# Altium schematic symbol library AltiumLibraries.SchLib: 486 symbols (part 2 of 3)
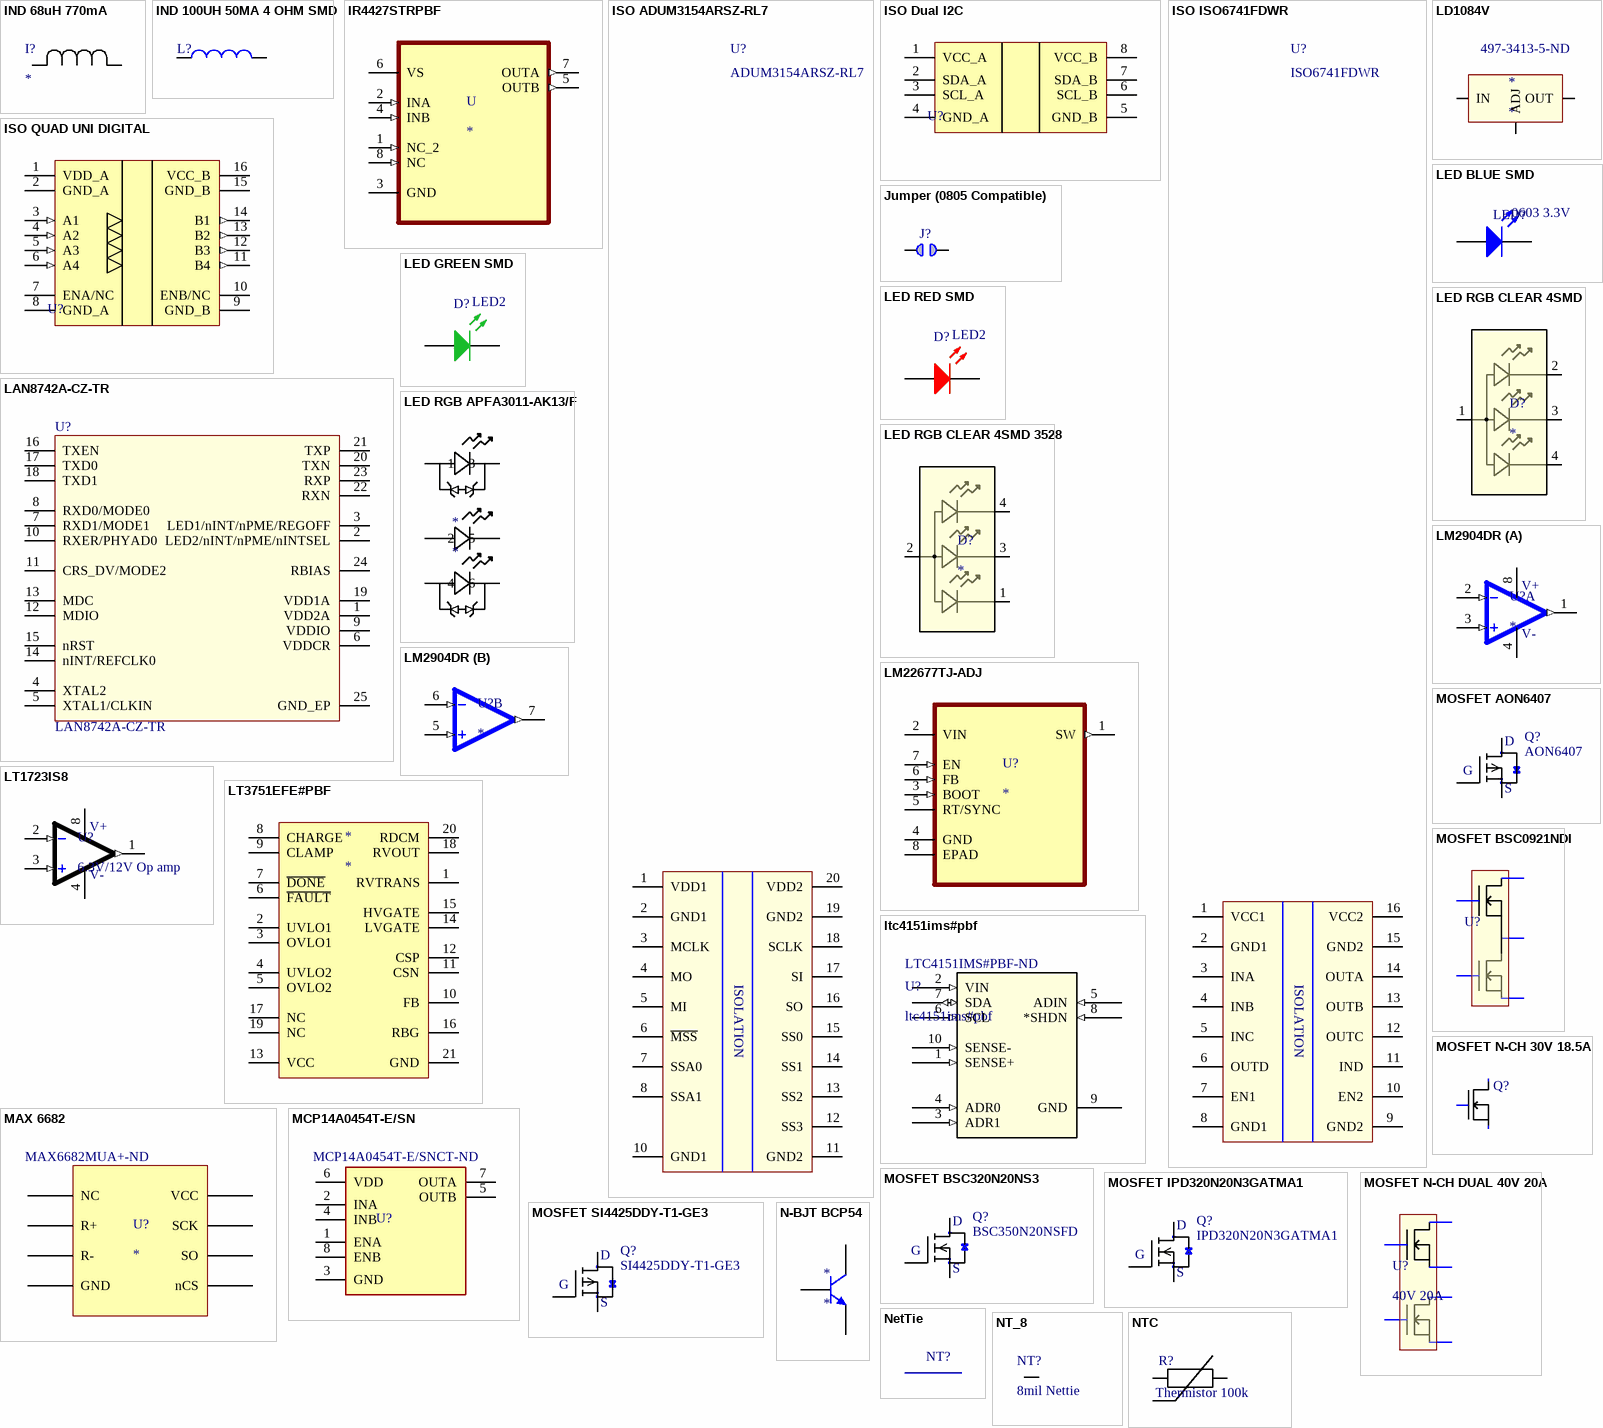
[diagram p13: symbols IND 68uH 770mA to NTC]

## LT3751EFE#PBF
designator *
Controller to 20-Pin TSSOP EP; Manufacturer: Analog Devices / Linear Technology; Manufacturer Part Number: LT3751EFE#PBF; Supplier 1: Digi-Key; Number of Pins: 20
pins: 1 RVTRANS "Transformer Supply Sense Pin. Connect a resistor between the RVTRANS pin and the VTRANS supply. Refer to Table 2 for proper sizing of the RVTRANS resistor. The minimum operation voltage for VTRANS is 4.75V.", 2 UVLO1 "VTRANS Undervoltage Lockout Pin. Senses when VTRANS drops below: VUVLO1 = 1.225+ 50uA •RUVLO1 and trips the F\A\U\L\T\ latch low, disabling switching. After VTRANS rises above VUVLO1, toggling the CHARGE pin reactivate(See Datasheet)", 3 OVLO1 "VTRANS Overvoltage Lockout Pin. Senses when VTRANS rises above: VOVLO1 = 1.225+ 50uA •ROVLO1 and trips the F\A\U\L\T\ latch low, disabling switching. After VTRANS drops below VOVLO1, toggling the CHARGE pin reactivate(See Datasheet)", 4 UVLO2 "VCC Undervoltage Lockout Pin. Senses when VCC drops below: VUVLO2 = 1.225+ 50uA •RUVLO2 and trips the F\A\U\L\T\ latch low, disabling switching. After VCC rises above VUVLO2, toggling the CHARGE pin reactivates switching.", 5 OVLO2 "VCC Overvoltage Lockout Pin. Senses when VCC rises above: VOVLO2 = 1.225+ 50uA •ROVLO2 and trips the F\A\U\L\T\ latch low, disabling switching. After VCC drops below VOVLO2, toggling the CHARGE pin reactivates switching.", 6 ~{FAULT} "Open Collector Indication Pin. When either VTRANS or VCC exceeds the user-selected voltage range, or an internal UVLO condition occurs, a transistor turns on. The part will stop switching. This pin needs a proper pull-up (See Datasheet)", 7 ~{DONE} "Open Collector Indication Pin. When the target output voltage (charge mode) is reached or the F\A\U\L\T\ pin goes low, a transistor turns on. This pin needs a proper pull-up resistor or current source.", 8 CHARGE "Charge Pin. Initiates a new charge cycle (charge mode) or enables the part (regulation mode) when driven higher than 1.5V. Bring this pin below 0.3V to discontinue charging and put the part into shutdown. Turn-on ramp rates (See Datasheet)", 9 CLAMP "Internal Clamp Voltage Selection Pin. Tie this pin to VCC to activate the internal 5.6V gate driver clamp. Tie this pin to ground to activate the internal 10.5V gate driver clamp.", 10 FB "Feedback Regulation Pin. Use this pin to achieve low noise voltage regulation. FB is internally regulated to 1.22V when a resistive divider is tied from this pin to the output. FB pin should not float. Tie FB pin to either a (See Datasheet)", 11 CSN "Negative Current Sense Pin. Senses external NMOS source current. Connect to local RSENSE ground connection for proper Kelvin sensing. The current limit is set by 106mV/RSENSE.", 12 CSP "Positive Current Sense Pin. Senses NMOS source current. Connect the NMOS source terminal and the current sense resistor to this pin. The current limit is fixed at 106mV/RSENSE in charge mode. The current limit can be reduced (See Datasheet)", 13 VCC "Input Supply Pin. Must be locally bypassed with high grade (X5R or better) ceramic capacitor. The minimum operating voltage for VCC is 4.75V.", 14 LVGATE "Low Voltage Gate Pin. Connect the NMOS gate terminal to this pin when operating VCC below 8V. The internal gate driver will drive the voltage to the VCC rail. When operating VCC higher than 8V, tie this pin directly to VCC.", 15 HVGATE "High Voltage Gate Pin. Connect NMOS gate terminal to this pin for all VCC operating voltages. Internal gate driver will drive the voltage to within VCC -2V during each switch cycle.", 16 RBG "Bias Generation Pin. Generates a bias current set by 0.98V/RBG. Select RBG to achieve desired resistance for RDCM, RVOUT, and RVTRANS.", 17 NC "No Connection.", 18 RVOUT "Output Voltage Sense Pin. Develops a current proportional to the output capacitor voltage.", 19 NC "No Connection.", 20 RDCM "Discontinuous Mode Sense Pin. Senses when the external NMOS drain is equal to 20uA ?RDCM + VTRANS and initiates the next switch cycle. Place a resistor equal to 0.45 times the resistor on the RVTRANS pin between this pi(See Datasheet)", 21 GND "Ground. Tie directly to local ground plane."

## ltc4151ims#pbf
designator U?  Supplier Part Number 1: LTC4151IMS#PBF-ND
Power Supply Controller Power Supply Monitor 10-MSOP; Type: DEV; Supplier 1: Digi-Key
pins: 1 SENSE+ (in), 2 VIN (in), 3 ADR1 (in), 4 ADR0 (in), 5 ADIN (in), 6 SCL (in), 7 SDA (io), 8 *SHDN (in), 9 GND (power), 10 SENSE- (in)

## MAX 6682
designator U?  Supplier Part Number 1: MAX6682MUA+-ND
MAX 6685 Thermistor - SPI converter, 8bit; Supplier 1: Digi-Key
pins: 1 NC, 2 R+, 3 R-, 4 GND, 5 nCS, 6 SO, 7 SCK, 8 VCC

## MCP14A0454T-E/SN
designator U?  Supplier Part Number 1: MCP14A0454T-E/SNCT-ND  (hidden comment: *)
Low-Side Gate Driver IC Non-Inverting 8-SOIC; Supplier 1: Digi-Key
pins: 1 ENA, 2 INA, 3 GND, 4 INB, 5 OUTB, 6 VDD, 7 OUTA, 8 ENB

## MOSFET AON6407
designator Q?, comment AON6407
MOSFET P-CH 30V 32A 8DFN; Digikey Link: https://www.digikey.ca/product-detail/en/alpha-omega-semiconductor-inc/AON6407/785-1421-1-ND/3466800; Supplier 1: Digi-Key; Supplier Part Number 1: 785-1421-1-ND
pins: D, G, S

## MOSFET BSC320N20NS3
designator Q?, comment BSC350N20NSFD
MOSFET N-CH 36A 200V; Digikey Link: https://www.digikey.ca/en/products/detail/infineon-technologies/BSC320N20NS3GATMA1/2337851; Supplier 1: Digi-Key; Supplier Part Number 1: BSC320N20NS3GATMA1CT-ND
pins: D, G, S

## MOSFET BSC0921NDI
designator U?
MOSFET N+N 30V 17A; Supplier 1: Digi-Key; Supplier Part Number 1: BSC0921NDIATMA1CT-ND
pins: D1, G1, G2, S1D2, S2

## MOSFET IPD320N20N3GATMA1
designator Q?, comment IPD320N20N3GATMA1
MOSFET N-CH 34A 200V DPAK; Digikey Link: https://www.digikey.ca/en/products/detail/infineon-technologies/IPD320N20N3GATMA1/5823324; Supplier 1: Digi-Key; Supplier Part Number 1: IPD320N20N3GATMA1CT-ND
pins: D, G, S

## MOSFET N-CH 30V 18.5A
designator Q?, comment N-Channel  (value not drawn)
MOSFET N-CH 30V 18.5A 8-SOIC; Rating: 30V; Digikey Link: https://www.digikey.ca/product-detail/en/on-semiconductor/FDS8813NZ/FDS8813NZCT-ND/1626932; Supplier 1: Digi-Key; Supplier Part Number 1: FDS8813NZCT-ND
pins: D, G, S

## MOSFET N-CH DUAL 40V 20A
designator U?, comment 40V 20A
MOSFET N+N 40V 20A; Supplier 1: Digi-Key; Supplier Part Number 1: SI7288DP-T1-GE3CT-ND
pins: 1 S1, 2 G1, 3 S2, 4 G2, 6 D2, 8 D1

## MOSFET SI4425DDY-T1-GE3
designator Q?, comment SI4425DDY-T1-GE3
P-Channel 30V 19.7A (Tc) 2.5W (Ta), 5.7W (Tc) Surface Mount 8-SO; Digikey Link: https://www.digikey.ca/product-detail/en/vishay-siliconix/SI4425DDY-T1-GE3/SI4425DDY-T1-GE3CT-ND/3305378
pins: D, G, S

## N-BJT BCP54
designator *
TRANS NPN 45V 1A SOT223; Supplier 1: Digi-Key; Supplier Part Number 1: 1727-1531-1-ND
pins: 1 B, 2 C, 3 E

## NetTie
designator NT?  (value not drawn)  (net tie, no BOM)
Combines 2 nets
pins: 1, 2

## NT_8
designator NT?, comment 8mil Nettie
8mil wide nettie
pins: 1, 2

## NTC
designator R?, comment Thermistor 100k
Value: 0
pins: 1 R1, 2 R2

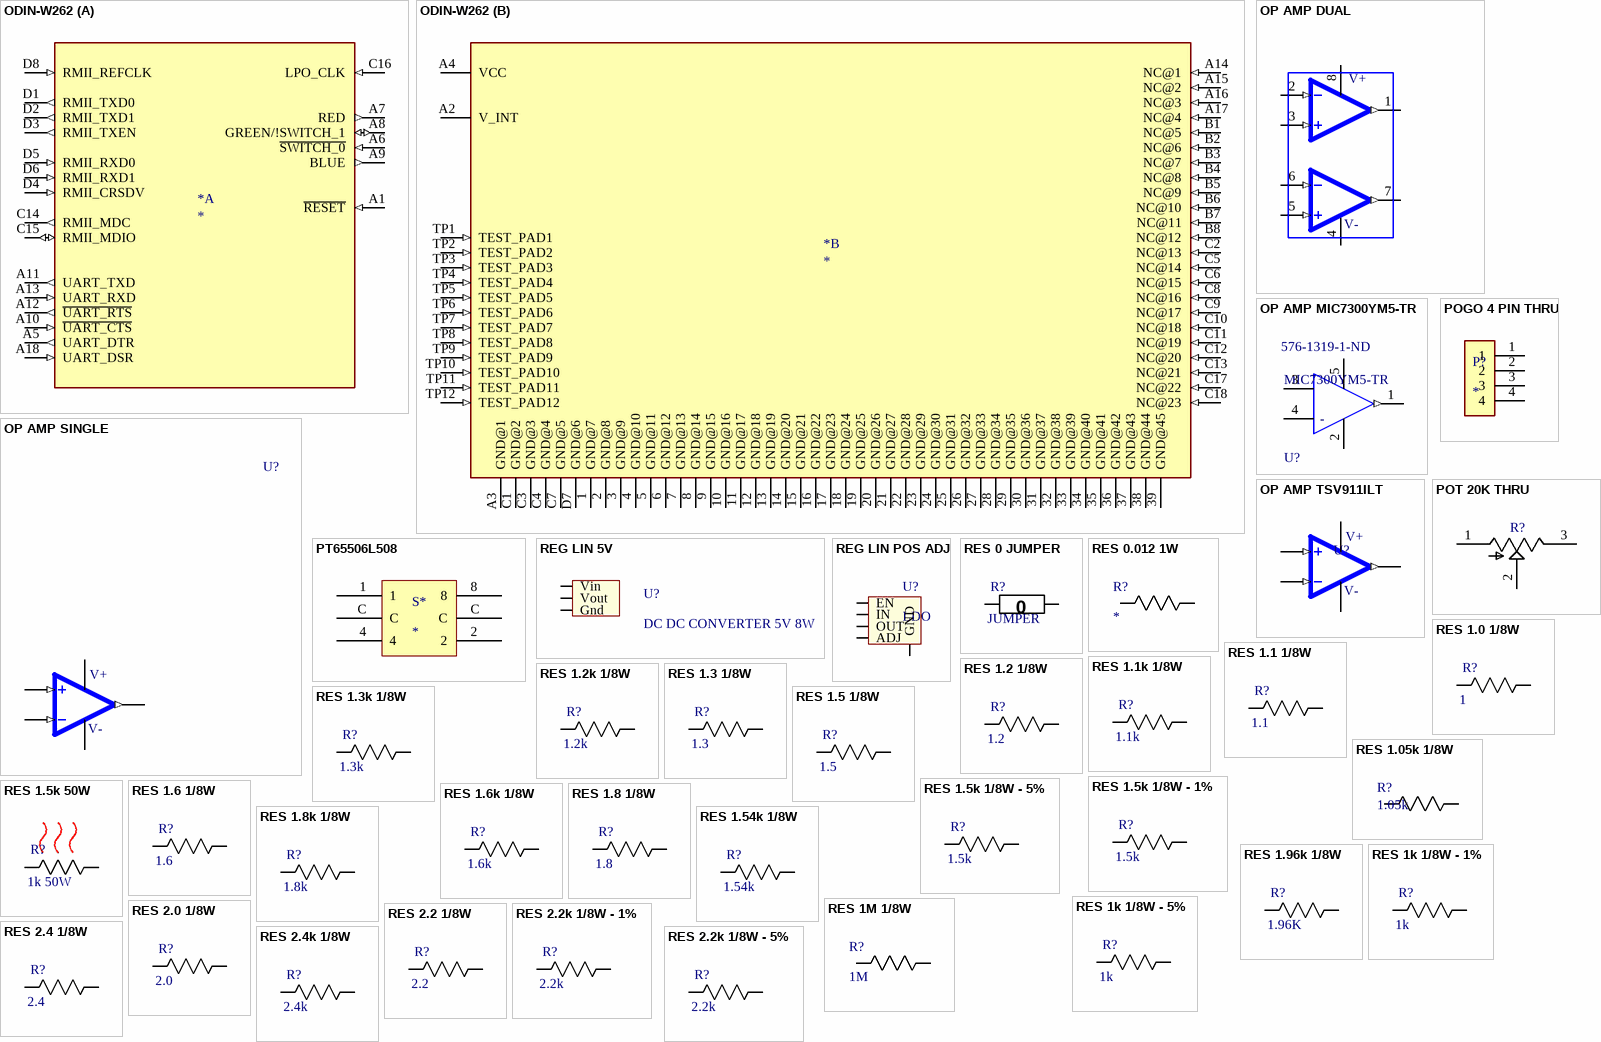
[diagram p6: symbols ODIN-W262 to RES 2.4k 1/8W]

## ODIN-W262
designator *
Supplier 1: Digi-Key; Supplier Part Number 1: 672-1017-6-ND
part A pins: A1 ~{RESET} (in), A5 UART_DTR (out), A6 ~{SWITCH_0} (in), A7 RED (out), A8 GREEN/!SWITCH_1 (io), A9 BLUE (out), A10 ~{UART_CTS} (in), A11 UART_TXD (out), A12 ~{UART_RTS} (out), A13 UART_RXD (in), A18 UART_DSR (in), C14 RMII_MDC (out), C15 RMII_MDIO (io), C16 LPO_CLK (in), D1 RMII_TXD0 (out), D2 RMII_TXD1 (out), D3 RMII_TXEN (out), D4 RMII_CRSDV (in), D5 RMII_RXD0 (in), D6 RMII_RXD1 (in), D8 RMII_REFCLK (in)
part B pins: 1 GND@7 (power), 2 GND@8 (power), 3 GND@9 (power), 4 GND@10 (power), 5 GND@11 (power), 6 GND@12 (power), 7 GND@13 (power), 8 GND@14 (power), 9 GND@15 (power), 10 GND@16 (power), 11 GND@17 (power), 12 GND@18 (power), 13 GND@19 (power), 14 GND@20 (power), 15 GND@21 (power), 16 GND@22 (power), 17 GND@23 (power), 18 GND@24 (power), 19 GND@25 (power), 20 GND@26 (power), 21 GND@27 (power), 22 GND@28 (power), 23 GND@29 (power), 24 GND@30 (power), 25 GND@31 (power), 26 GND@32 (power), 27 GND@33 (power), 28 GND@34 (power), 29 GND@35 (power), 30 GND@36 (power), 31 GND@37 (power), 32 GND@38 (power), 33 GND@39 (power), 34 GND@40 (power), 35 GND@41 (power), 36 GND@42 (power), 37 GND@43 (power), 38 GND@44 (power), 39 GND@45 (power), A2 V_INT (power), A3 GND@1 (power), A4 VCC (power), A14 NC@1 (in), A15 NC@2 (in), A16 NC@3 (in), A17 NC@4 (in), B1 NC@5 (in), B2 NC@6 (in), B3 NC@7 (in), B4 NC@8 (in), B5 NC@9 (in), B6 NC@10 (in), B7 NC@11 (in), B8 NC@12 (in), C1 GND@2 (power), C2 NC@13 (in), C3 GND@3 (power), C4 GND@4 (power), C5 NC@14 (in), C6 NC@15 (in), C7 GND@5 (power), C8 NC@16 (in), C9 NC@17 (in), C10 NC@18 (in), C11 NC@19 (in), C12 NC@20 (in), C13 NC@21 (in), C17 NC@22 (in), C18 NC@23 (in), D7 GND@6 (power), TP1 TEST_PAD1 (in), TP2 TEST_PAD2 (in), TP3 TEST_PAD3 (in), TP4 TEST_PAD4 (in), TP5 TEST_PAD5 (in), TP6 TEST_PAD6 (in), TP7 TEST_PAD7 (in), TP8 TEST_PAD8 (in), TP9 TEST_PAD9 (in), TP10 TEST_PAD10 (in), TP11 TEST_PAD11 (in), TP12 TEST_PAD12 (in)

## OP AMP DUAL
designator U?
IC OPAMP VFB 50KHZ RRO 8MSOP; Manufacturer: Analog Devices; Manufacturer Part Number: ADA4505-2ARMZ; Number of Pins: 8; Unity Gain Bandwidth Product: 50kHz; Length: 3.2mm; Width: 3.2mm; Height: 0.95mm
pins: 1 OUTA (out), 2 INA- (in), 3 INA+ (in), 4 V- (power), 5 INB+ (in), 6 INB- (in), 7 OUTB (out), 8 V+ (power)

## OP AMP MIC7300YM5-TR
designator U?, comment MIC7300YM5-TR  Supplier Part Number 1: 576-1319-1-ND
IC OPAMP GP 1 CIRCUIT SOT23-5; Manufacturer: Microchip; Height: 1.45mm; Manufacturer Part Number: MIC7300YM5-TR; Supplier 1: Digi-Key
pins: 1 OUT (out), 2 V- (power), 3 IN+ (hiz), 4 IN- (hiz), 5 V+ (power)
text: -

## OP AMP SINGLE
designator U?
ANALOG DEVICES - ADA4505-1ARJZ-R7 - IC, AMPLIF. OPER., R-R, CMOS, SOT23-5; Unity Gain Bandwidth Product: 50kHz; Supplier 1: Digi-Key; Manufacturer: Analog Devices; Manufacturer Part Number: ADA4505-1ARJZ-R7; Number of Pins: 5
pins: 1 OUT (out), 2 V- (power), 3 IN+ (in), 4 IN- (in), 5 V+ (power)

## OP AMP TSV911ILT
designator U?  (value not drawn)
IC OPAMP GP 1 CIRCUIT SOT23-5; Manufacturer: STMicroelectronics
pins: 1 OUT (out), 2 V- (power), 3 IN+ (in), 4 IN- (in), 5 V+ (power)

## POGO 4 PIN THRU
designator P?
4 pin POGO Holes 0.100" Pitch
pins: 1, 2, 3, 4

## POT 20K THRU
designator R?, comment 20K  (value not drawn)
TRIMMER 20K OHM 0.5W PC PIN TOP - Phillips Screw head
pins: 1 CCW, 2 WIPER, 3 CW

## PT65506L508
designator S*
Rotary Dip Switch - 16 position Hexadecimal Complement Through Hole, Right Angle Rotary with Knob Actuator 150mA 24VDC
pins: 1, 2, 4, 8, C, C

## REG LIN 5V
designator U?, comment DC DC CONVERTER 5V 8W
Linear Regulator Replacement DC DC Converter 1 Output 5V 1.5A 7V - 36V Input; Digikey Link: https://www.digikey.ca/products/en?keywords=OKI-78SR-5%2F1.5-W36H-C; Supplier 1: Digi-Key; Supplier Part Number 1: 811-2692-ND
pins: Gnd, Vin, Vout

## REG LIN POS ADJ
designator U?, comment LDO
Linear Voltage Regulator IC  1 Output  500mA 8-SOIC; Digikey Link: https://www.digikey.ca/product-detail/en/texas-instruments/TL5209DR/296-21569-1-ND/1427137; Rating: 500mA; Supplier 1: Digi-Key; Supplier Part Number 1: 296-21569-1-ND
pins: ADJ, EN, GND, IN, OUT

## RES 0 JUMPER
designator R?, comment JUMPER
RES SMD 0 OHM JUMPER GENERIC 0805; Value: 0
pins: 1 R1, 2 R2

## RES 0.012 1W
designator R?
pins: 1 R1, 2 R2

## RES 1.0 1/8W
designator R?, comment 1
RES SMD 1.0 OHM 5% 1/8W 0805; Value: 1; Tolerance: 5%
pins: 1 R1, 2 R2

## RES 1.1 1/8W
designator R?, comment 1.1
RES SMD 1.1 OHM 5% 1/8W 0805; Value: 1.1; Tolerance: 5%
pins: 1 R1, 2 R2

## RES 1.1k 1/8W
designator R?, comment 1.1k
RES SMD 1.1K OHM 5% 1/8W 0805; Value: 1.1k; Tolerance: 5%
pins: 1 R1, 2 R2

## RES 1.2 1/8W
designator R?, comment 1.2
RES SMD 1.2 OHM 5% 1/8W 0805; Value: 1.2; Tolerance: 5%
pins: 1 R1, 2 R2

## RES 1.2k 1/8W
designator R?, comment 1.2k
RES SMD 1.2K OHM 5% 1/8W 0805; Value: 1.2k; Tolerance: 5%
pins: 1 R1, 2 R2

## RES 1.3 1/8W
designator R?, comment 1.3
RES SMD 1.3 OHM 5% 1/8W 0805; Value: 1.3; Tolerance: 5%
pins: 1 R1, 2 R2

## RES 1.3k 1/8W
designator R?, comment 1.3k
RES SMD 1.3K OHM 5% 1/8W 0805; Value: 1.3k; Tolerance: 5%
pins: 1 R1, 2 R2

## RES 1.5 1/8W
designator R?, comment 1.5
RES SMD 1.5 OHM 5% 1/8W 0805; Value: 1.5; Tolerance: 5%
pins: 1 R1, 2 R2

## RES 1.05k 1/8W
designator R?, comment 1.05k
RES SMD 1.05K OHM 0.1% 1/8W 0805; Supplier 1: Digi-Key; Value: 1.05k; Tolerance: 0.1%; Supplier Part Number 1: P1.05KDACT-ND
pins: 1 R1, 2 R2

## RES 1.5k 1/8W - 1%
designator R?, comment 1.5k
RES SMD 1.5K OHM 1% 1/8W 0805; Value: 1.5k; Tolerance: 1%
pins: 1 R1, 2 R2

## RES 1.5k 1/8W - 5%
designator R?, comment 1.5k
RES SMD 1.5K OHM 5% 1/8W 0805; Value: 1.5k; Tolerance: 5%
pins: 1 R1, 2 R2

## RES 1.5k 50W
designator R?, comment 1k 50W
RES SMD 1.5K OHM 1% 50W D2PAK; Value: 1.5k; Tolerance: 1%
pins: 1 R1, 2 R2, 3

## RES 1.6 1/8W
designator R?, comment 1.6
RES SMD 1.6 OHM 5% 1/8W 0805; Value: 1.6; Tolerance: 5%
pins: 1 R1, 2 R2

## RES 1.6k 1/8W
designator R?, comment 1.6k
RES SMD 1.6K OHM 5% 1/8W 0805; Value: 1.6k; Tolerance: 5%
pins: 1 R1, 2 R2

## RES 1.8 1/8W
designator R?, comment 1.8
RES SMD 1.8 OHM 5% 1/8W 0805; Value: 1.8; Tolerance: 5%
pins: 1 R1, 2 R2

## RES 1.8k 1/8W
designator R?, comment 1.8k
RES SMD 1.8K OHM 5% 1/8W 0805; Value: 1.8k; Tolerance: 5%
pins: 1 R1, 2 R2

## RES 1.54k 1/8W
designator R?, comment 1.54k
RES SMD 1.54K OHM 1% 1/8W 0805; Value: 1.54k; Tolerance: 1%
pins: 1 R1, 2 R2

## RES 1.96k 1/8W
designator R?, comment 1.96K
RES SMD 1.96K OHM 1% 1/8W 0805; Value: 1.96k; Tolerance: 1%
pins: 1 R1, 2 R2

## RES 1k 1/8W - 1%
designator R?, comment 1k
RES SMD 1K OHM 1% 1/8W 0603/0805; Value: 1k; Tolerance: 1%
pins: 1 R1, 2 R2

## RES 1k 1/8W - 5%
designator R?, comment 1k
RES SMD 1K OHM 5% 1/8W 0603/0805; Value: 1k; Tolerance: 5%
pins: 1 R1, 2 R2

## RES 1M 1/8W
designator R?, comment 1M
RES SMD 1M OHM 0.1% 1/8W 0805; Tolerance: 5%; Value: 1M
pins: 1 R1, 2 R2

## RES 2.0 1/8W
designator R?, comment 2.0
RES SMD 2.0 OHM 5% 1/8W 0805; Value: 2.0; Tolerance: 5%
pins: 1 R1, 2 R2

## RES 2.2 1/8W
designator R?, comment 2.2
RES SMD 2.2 OHM 5% 1/8W 0805; Value: 2.2; Tolerance: 5%
pins: 1 R1, 2 R2

## RES 2.2k 1/8W - 1%
designator R?, comment 2.2k
RES SMD 2.2K OHM 1% 1/8W 0805; Value: 2.2k; Tolerance: 1%
pins: 1 R1, 2 R2

## RES 2.2k 1/8W - 5%
designator R?, comment 2.2k
RES SMD 2.2K OHM 5% 1/8W 0805; Value: 2.2k; Tolerance: 5%
pins: 1 R1, 2 R2

## RES 2.4 1/8W
designator R?, comment 2.4
RES SMD 2.4 OHM 5% 1/8W 0805; Value: 2.4; Tolerance: 5%
pins: 1 R1, 2 R2

## RES 2.4k 1/8W
designator R?, comment 2.4k
RES SMD 2.4K OHM 5% 1/8W 0805; Value: 2.4k; Tolerance: 5%
pins: 1 R1, 2 R2

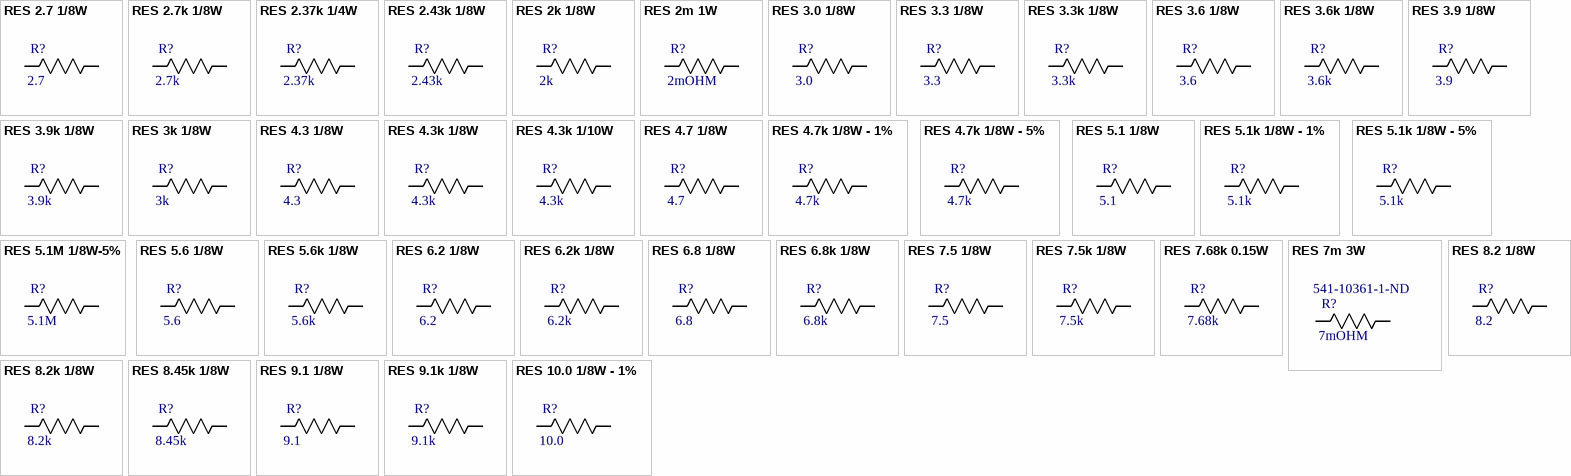
[diagram p7: symbols RES 2.7 1/8W to RES 10.0 1/8W - 1%]

## RES 2.7 1/8W
designator R?, comment 2.7
RES SMD 2.7 OHM 5% 1/8W 0805; Value: 2.7; Tolerance: 5%
pins: 1 R1, 2 R2

## RES 2.7k 1/8W
designator R?, comment 2.7k
RES SMD 2.7K OHM 5% 1/8W 0805; Value: 2.7k; Tolerance: 5%
pins: 1 R1, 2 R2

## RES 2.37k 1/4W
designator R?, comment 2.37k
RES SMD 2.37K OHM 1% 1/4W 0805; Value: 2.37k; Tolerance: 1%
pins: 1 R1, 2 R2

## RES 2.43k 1/8W
designator R?, comment 2.43k
RES SMD 2.43K OHM 5% 1/8W 0805; Value: 2.43k; Tolerance: 5%
pins: 1 R1, 2 R2

## RES 2k 1/8W
designator R?, comment 2k
RES SMD 2K OHM 5% 1/8W 0805; Value: 2k; Tolerance: 5%
pins: 1 R1, 2 R2

## RES 2m 1W
designator R?, comment 2mOHM
RES SMD 2m OHM 1% 1W 1206; Tolerance: 1%
pins: 1 R1, 2 R2

## RES 3.0 1/8W
designator R?, comment 3.0
RES SMD 3.0 OHM 5% 1/8W 0805; Value: 3.0; Tolerance: 5%
pins: 1 R1, 2 R2

## RES 3.3 1/8W
designator R?, comment 3.3
RES SMD 3.3 OHM 5% 1/8W 0805; Value: 3.3; Tolerance: 5%
pins: 1 R1, 2 R2

## RES 3.3k 1/8W
designator R?, comment 3.3k
RES SMD 3.3K OHM 5% 1/8W 0805; Value: 3.3k; Tolerance: 5%
pins: 1 R1, 2 R2

## RES 3.6 1/8W
designator R?, comment 3.6
RES SMD 3.6 OHM 5% 1/8W 0805; Value: 3.6; Tolerance: 5%
pins: 1 R1, 2 R2

## RES 3.6k 1/8W
designator R?, comment 3.6k
RES SMD 3.6K OHM 5% 1/8W 0805; Value: 3.6k; Tolerance: 5%
pins: 1 R1, 2 R2

## RES 3.9 1/8W
designator R?, comment 3.9
RES SMD 3.9 OHM 5% 1/8W 0805; Value: 3.9; Tolerance: 5%
pins: 1 R1, 2 R2

## RES 3.9k 1/8W
designator R?, comment 3.9k
RES SMD 3.9K OHM 5% 1/8W 0805; Value: 3.9k; Tolerance: 5%
pins: 1 R1, 2 R2

## RES 3k 1/8W
designator R?, comment 3k
RES SMD 3K OHM 5% 1/8W 0805; Value: 3k; Tolerance: 5%
pins: 1 R1, 2 R2

## RES 4.3 1/8W
designator R?, comment 4.3
RES SMD 4.3 OHM 5% 1/8W 0805; Value: 4.3; Tolerance: 5%
pins: 1 R1, 2 R2

## RES 4.3k 1/8W
designator R?, comment 4.3k
RES SMD 4.3K OHM 5% 1/8W 0805; Value: 4.3k; Tolerance: 5%
pins: 1 R1, 2 R2

## RES 4.3k 1/10W
designator R?, comment 4.3k
RES SMD 4.3K OHM 1% 1/10W 0603; Tolerance: 5%; Value: 4.3k
pins: 1 R1, 2 R2

## RES 4.7 1/8W
designator R?, comment 4.7
RES SMD 4.7 OHM 5% 1/8W 0805; Value: 4.7; Tolerance: 5%
pins: 1 R1, 2 R2

## RES 4.7k 1/8W - 1%
designator R?, comment 4.7k
RES SMD 4.7k OHM 1% 1/8W 0805; Value: 4.7k; Tolerance: 1%
pins: 1 R1, 2 R2

## RES 4.7k 1/8W - 5%
designator R?, comment 4.7k
RES SMD 4.7k OHM 5% 1/8W 0805; Value: 4.7k; Tolerance: 5%
pins: 1 R1, 2 R2

## RES 5.1 1/8W
designator R?, comment 5.1
RES SMD 5.1 OHM 5% 1/8W 0805; Value: 5.1; Tolerance: 5%
pins: 1 R1, 2 R2

## RES 5.1k 1/8W - 1%
designator R?, comment 5.1k
RES SMD 5.1K OHM 1% 1/8W 0805; Value: 5.1k; Tolerance: 1%
pins: 1 R1, 2 R2

## RES 5.1k 1/8W - 5%
designator R?, comment 5.1k
RES SMD 5.1K OHM 5% 1/8W 0805; Value: 5.1k; Tolerance: 5%
pins: 1 R1, 2 R2

## RES 5.1M 1/8W-5%
designator R?, comment 5.1M
RES SMD 5.1 MOHM 5% 1/8W 0805; Value: 5.1M; Tolerance: 5%
pins: 1 R1, 2 R2

## RES 5.6 1/8W
designator R?, comment 5.6
RES SMD 5.6 OHM 5% 1/8W 0805; Value: 5.6; Tolerance: 5%
pins: 1 R1, 2 R2

## RES 5.6k 1/8W
designator R?, comment 5.6k
RES SMD 5.6K OHM 5% 1/8W 0805; Value: 5.6k; Tolerance: 5%
pins: 1 R1, 2 R2

## RES 6.2 1/8W
designator R?, comment 6.2
RES SMD 6.2 OHM 5% 1/8W 0805; Value: 6.2; Tolerance: 5%
pins: 1 R1, 2 R2

## RES 6.2k 1/8W
designator R?, comment 6.2k
RES SMD 6.2K OHM 5% 1/8W 0805; Value: 6.2k; Tolerance: 5%
pins: 1 R1, 2 R2

## RES 6.8 1/8W
designator R?, comment 6.8
RES SMD 6.8 OHM 5% 1/8W 0805; Value: 6.8; Tolerance: 5%
pins: 1 R1, 2 R2

## RES 6.8k 1/8W
designator R?, comment 6.8k
RES SMD 6.8K OHM 5% 1/8W 0805; Value: 6.8k; Tolerance: 5%
pins: 1 R1, 2 R2

## RES 7.5 1/8W
designator R?, comment 7.5
RES SMD 7.5 OHM 5% 1/8W 0805; Value: 7.5; Tolerance: 5%
pins: 1 R1, 2 R2

## RES 7.5k 1/8W
designator R?, comment 7.5k
RES SMD 7.5K OHM 5% 1/8W 0805; Value: 7.5k; Tolerance: 5%
pins: 1 R1, 2 R2

## RES 7.68k 0.15W
designator R?, comment 7.68k
RES SMD 7.68K OHM 0.1% 0.15W 0805; Tolerance: 5%; Value: 7.68k
pins: 1 R1, 2 R2

## RES 7m 3W
designator R?, comment 7mOHM  Supplier Part Number 1: 541-10361-1-ND
RES SMD 7m OHM 1% 3W 2512; Tolerance: 1%; Supplier 1: Digi-Key
pins: 1 R1, 2 R2

## RES 8.2 1/8W
designator R?, comment 8.2
RES SMD 8.2 OHM 5% 1/8W 0805; Value: 8.2; Tolerance: 5%
pins: 1 R1, 2 R2

## RES 8.2k 1/8W
designator R?, comment 8.2k
RES SMD 8.2K OHM 5% 1/8W 0805; Value: 8.2k; Tolerance: 5%
pins: 1 R1, 2 R2

## RES 8.45k 1/8W
designator R?, comment 8.45k
RES SMD 8.45k OHM 1% 1/8W 0603; Value: 8.45k; Tolerance: 1%
pins: 1 R1, 2 R2

## RES 9.1 1/8W
designator R?, comment 9.1
RES SMD 9.1 OHM 5% 1/8W 0805; Value: 9.1; Tolerance: 5%
pins: 1 R1, 2 R2

## RES 9.1k 1/8W
designator R?, comment 9.1k
RES SMD 9.1K OHM 5% 1/8W 0805; Value: 9.1k; Tolerance: 5%
pins: 1 R1, 2 R2

## RES 10.0 1/8W - 1%
designator R?, comment 10.0
RES SMD 10.0 OHM 1% 1/8W 0805; Value: 10.0; Tolerance: 1%
pins: 1 R1, 2 R2

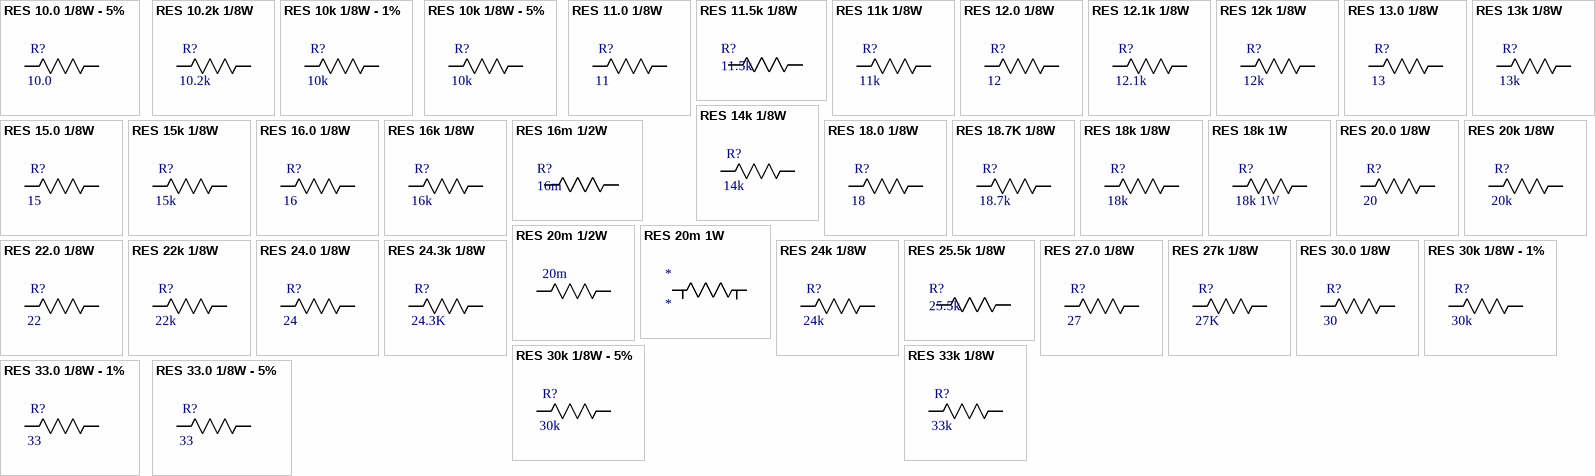
[diagram p8: symbols RES 10.0 1/8W - 5% to RES 33k 1/8W]

## RES 10.0 1/8W - 5%
designator R?, comment 10.0
RES SMD 10.0 OHM 5% 1/8W 0805; Value: 10.0; Tolerance: 5%
pins: 1 R1, 2 R2

## RES 10.2k 1/8W
designator R?, comment 10.2k
RES SMD 10.2K OHM 1% 1/8W 0805; Value: 10.2k; Tolerance: 1%
pins: 1 R1, 2 R2

## RES 10k 1/8W - 1%
designator R?, comment 10k
RES SMD 10K OHM 1% 1/8W 0805; Value: 10k; Tolerance: 1%
pins: 1 R1, 2 R2

## RES 10k 1/8W - 5%
designator R?, comment 10k
RES SMD 10K OHM 5% 1/8W 0805; Value: 10k; Tolerance: 5%
pins: 1 R1, 2 R2

## RES 11.0 1/8W
designator R?, comment 11
RES SMD 11 OHM 5% 1/8W 0805; Value: 11; Tolerance: 5%
pins: 1 R1, 2 R2

## RES 11.5k 1/8W
designator R?, comment 11.5k
RES SMD 11.5K OHM 0.1% 1/8W 0805 Thin Film; Manufacturer: Panasonic; Manufacturer Part Number: ERA-6AEB1152V; Voltage Rating: 100V; Temperature Coefficient: 25ppm/°C; Supplier 1: Digi-Key; Mount: Surface Mount; Number of Pins: 2; Tolerance: 0.1%; Length: 2mm; Height: 0.5mm; Width: 1.25mm; Depth: 1.25mm; Supplier Part Number 1: P11.5KDACT-ND
pins: 1 R1, 2 R2

## RES 11k 1/8W
designator R?, comment 11k
RES SMD 11k OHM 5% 1/8W 0805; Value: 11k; Tolerance: 5%
pins: 1 R1, 2 R2

## RES 12.0 1/8W
designator R?, comment 12
RES SMD 12 OHM 5% 1/8W 0805; Value: 12; Tolerance: 5%
pins: 1 R1, 2 R2

## RES 12.1k 1/8W
designator R?, comment 12.1k
RES SMD 12.1K OHM 1% 1/8W 0805; Value: 12.1k; Tolerance: 1%
pins: 1 R1, 2 R2

## RES 12k 1/8W
designator R?, comment 12k
RES SMD 12K OHM 5% 1/8W 0805; Value: 12k; Tolerance: 5%
pins: 1 R1, 2 R2

## RES 13.0 1/8W
designator R?, comment 13
RES SMD 13 OHM 5% 1/8W 0805; Value: 13; Tolerance: 5%
pins: 1 R1, 2 R2

## RES 13k 1/8W
designator R?, comment 13k
RES SMD 13K OHM 5% 1/8W 0805; Value: 13k; Tolerance: 5%
pins: 1 R1, 2 R2

## RES 14k 1/8W
designator R?, comment 14k
RES SMD 14K OHM 1% 1/8W 0805; Value: 14k; Tolerance: 1%
pins: 1 R1, 2 R2

## RES 15.0 1/8W
designator R?, comment 15
RES SMD 15 OHM 5% 1/8W 0805; Value: 15; Tolerance: 5%
pins: 1 R1, 2 R2

## RES 15k 1/8W
designator R?, comment 15k
RES SMD 15K OHM 5% 1/8W 0805; Value: 15k; Tolerance: 5%
pins: 1 R1, 2 R2

## RES 16.0 1/8W
designator R?, comment 16
RES SMD 16 OHM 5% 1/8W 0805; Value: 16; Tolerance: 5%
pins: 1 R1, 2 R2

## RES 16k 1/8W
designator R?, comment 16k
RES SMD 16K OHM 5% 1/8W 0805; Value: 16k; Tolerance: 5%
pins: 1 R1, 2 R2

## RES 16m 1/2W
designator R?, comment 16m
RES SMD 0.016 OHM 1% 1/2W 0805 Thick Film; Manufacturer: Panasonic; Manufacturer Part Number: ERJ-6BWFR016V; Temperature Coefficient: 200ppm/°C; Supplier 1: Digi-Key; Mount: Surface Mount; Number of Pins: 2; Tolerance: 1%; Length: 2mm; Height: 0.028inch; Width: 0.049inch; Depth: 1.25mm; Supplier Part Number 1: P.016AQCT-ND
pins: 1 R1, 2 R2

## RES 18.0 1/8W
designator R?, comment 18
RES SMD 18 OHM 5% 1/8W 0805; Value: 18; Tolerance: 5%
pins: 1 R1, 2 R2

## RES 18.7K 1/8W
designator R?, comment 18.7k
RES SMD 18.7K OHM 1% 1/8W 0805; Value: 18.7k; Tolerance: 1%
pins: 1 R1, 2 R2

## RES 18k 1/8W
designator R?, comment 18k
RES SMD 18K OHM 5% 1/8W 0805; Value: 18k; Tolerance: 5%
pins: 1 R1, 2 R2

## RES 18k 1W
designator R?, comment 18k 1W
RES SMD 18K OHM 5% 1W 2512; Value: 18k; Tolerance: 5%
pins: 1 R1, 2 R2

## RES 20.0 1/8W
designator R?, comment 20
RES SMD 20 OHM 5% 1/8W 0805; Value: 20; Tolerance: 5%
pins: 1 R1, 2 R2

## RES 20k 1/8W
designator R?, comment 20k
RES SMD 20K OHM 5% 1/8W 0805; Value: 20k; Tolerance: 5%
pins: 1 R1, 2 R2

## RES 20m 1/2W
designator 20m
RES SMD 0.02 OHM 1% 1/2W 0805; Value: 20mOHM; Tolerance: 1%
pins: 1 R1, 2 R2

## RES 20m 1W
designator *
RES SMD 0.02 OHM 1% 1W 1206
pins: 1 R1, 2 R2, 3, 4

## RES 22.0 1/8W
designator R?, comment 22
RES SMD 22 OHM 5% 1/8W 0805; Value: 22; Tolerance: 5%
pins: 1 R1, 2 R2

## RES 22k 1/8W
designator R?, comment 22k
RES SMD 22K OHM 5% 1/8W 0805; Value: 22k; Tolerance: 5%
pins: 1 R1, 2 R2

## RES 24.0 1/8W
designator R?, comment 24
RES SMD 24 OHM 5% 1/8W 0805; Value: 24; Tolerance: 5%
pins: 1 R1, 2 R2

## RES 24.3k 1/8W
designator R?, comment 24.3K
RES SMD 24.3K OHM 1% 1/8W 0805; Value: 24.3k; Tolerance: 1%
pins: 1 R1, 2 R2

## RES 24k 1/8W
designator R?, comment 24k
RES SMD 24K OHM 5% 1/8W 0805; Value: 24k; Tolerance: 5%
pins: 1 R1, 2 R2

## RES 25.5k 1/8W
designator R?, comment 25.5k
RES SMD 25.5K OHM 0.1% 1/8W 0805; Manufacturer: Panasonic; Manufacturer Part Number: ERA-6AEB2552V; Temperature Coefficient: 25ppm/°C; Voltage Rating: 100V; Supplier 1: Digi-Key; Mount: Surface Mount; Number of Pins: 2; Tolerance: 0.1%; Length: 2mm; Height: 0.5mm; Width: 1.25mm; Depth: 1.25mm; Supplier Part Number 1: P25.5KDACT-ND
pins: 1 R1, 2 R2

## RES 27.0 1/8W
designator R?, comment 27
RES SMD 27 OHM 5% 1/8W 0805; Value: 27; Tolerance: 5%
pins: 1 R1, 2 R2

## RES 27k 1/8W
designator R?, comment 27K
RES SMD 27K OHM 5% 1/8W 0805; Value: 27k; Tolerance: 5%
pins: 1 R1, 2 R2

## RES 30.0 1/8W
designator R?, comment 30
RES SMD 30 OHM 5% 1/8W 0805; Value: 30; Tolerance: 5%
pins: 1 R1, 2 R2

## RES 30k 1/8W - 1%
designator R?, comment 30k
RES SMD 30K OHM 1% 1/8W 0805; Value: 30k; Tolerance: 1%
pins: 1 R1, 2 R2

## RES 30k 1/8W - 5%
designator R?, comment 30k
RES SMD 30K OHM 5% 1/8W 0805; Value: 30k; Tolerance: 5%
pins: 1 R1, 2 R2

## RES 33.0 1/8W - 1%
designator R?, comment 33
RES SMD 33 OHM 1% 1/8W 0805; Value: 33; Tolerance: 1%
pins: 1 R1, 2 R2

## RES 33.0 1/8W - 5%
designator R?, comment 33
RES SMD 33 OHM 5% 1/8W 0805; Value: 33; Tolerance: 5%
pins: 1 R1, 2 R2

## RES 33k 1/8W
designator R?, comment 33k
RES SMD 33K OHM 5% 1/8W 0805; Value: 33k; Tolerance: 5%
pins: 1 R1, 2 R2

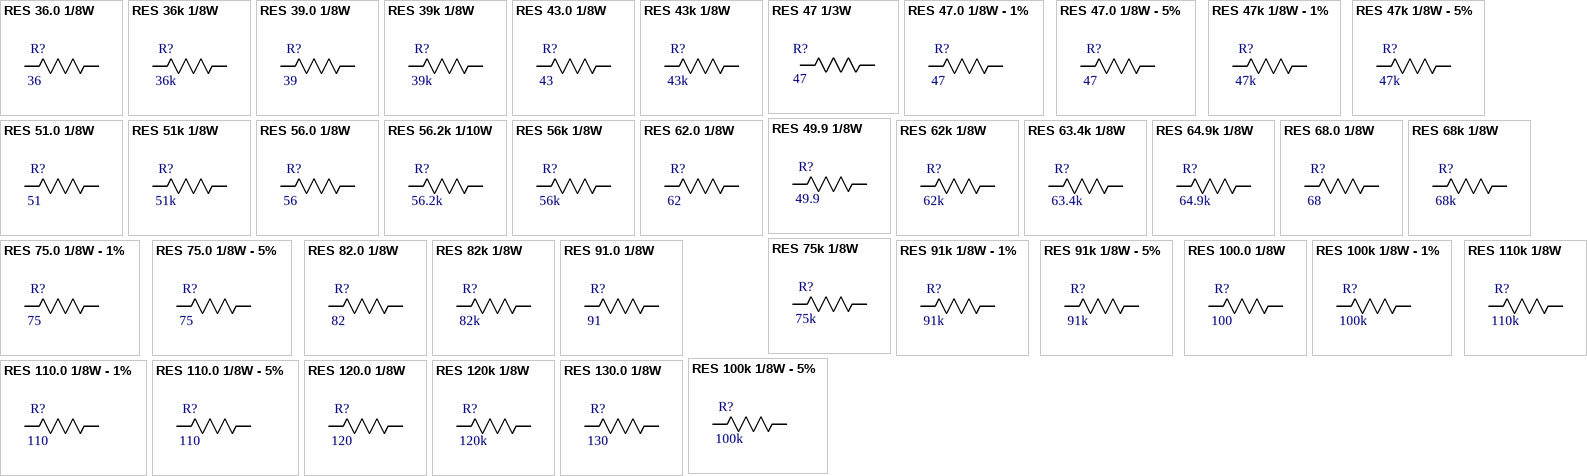
[diagram p9: symbols RES 36.0 1/8W to RES 130.0 1/8W]

## RES 36.0 1/8W
designator R?, comment 36
RES SMD 36 OHM 5% 1/8W 0805; Value: 36; Tolerance: 5%
pins: 1 R1, 2 R2

## RES 36k 1/8W
designator R?, comment 36k
RES SMD 36K OHM 5% 1/8W 0805; Value: 36k; Tolerance: 5%
pins: 1 R1, 2 R2

## RES 39.0 1/8W
designator R?, comment 39
RES SMD 39 OHM 5% 1/8W 0805; Value: 39; Tolerance: 5%
pins: 1 R1, 2 R2

## RES 39k 1/8W
designator R?, comment 39k
RES SMD 39K OHM 5% 1/8W 0603/0805; Value: 39k; Tolerance: 5%
pins: 1 R1, 2 R2

## RES 43.0 1/8W
designator R?, comment 43
RES SMD 43 OHM 5% 1/8W 0805; Value: 43; Tolerance: 5%
pins: 1 R1, 2 R2

## RES 43k 1/8W
designator R?, comment 43k
RES SMD 43K OHM 5% 1/8W 0805; Value: 43k; Tolerance: 5%
pins: 1 R1, 2 R2

## RES 47 1/3W
designator R?, comment 47
RES SMD 47 OHM 1% 1/3W 0603; Value: 47; Tolerance: 1%
pins: 1 R1, 2 R2

## RES 47.0 1/8W - 1%
designator R?, comment 47
RES SMD 47 OHM 1% 1/8W 0805; Value: 47; Tolerance: 1%
pins: 1 R1, 2 R2

## RES 47.0 1/8W - 5%
designator R?, comment 47
RES SMD 47 OHM 5% 1/8W 0805; Value: 47; Tolerance: 5%
pins: 1 R1, 2 R2

## RES 47k 1/8W - 1%
designator R?, comment 47k
RES SMD 47K OHM 1% 1/8W 0805; Value: 47k; Tolerance: 1%
pins: 1 R1, 2 R2

## RES 47k 1/8W - 5%
designator R?, comment 47k
RES SMD 47k OHM 5% 1/8W 0805; Value: 47k; Tolerance: 5%
pins: 1 R1, 2 R2

## RES 49.9 1/8W
designator R?, comment 49.9
RES SMD 49.9 OHM 1% 1/8W 0805; Value: 49.9; Tolerance: 1%
pins: 1 R1, 2 R2

## RES 51.0 1/8W
designator R?, comment 51
RES SMD 51 OHM 5% 1/8W 0805; Value: 51; Tolerance: 5%
pins: 1 R1, 2 R2

## RES 51k 1/8W
designator R?, comment 51k
RES SMD 51K OHM 5% 1/8W 0805; Value: 51k; Tolerance: 5%
pins: 1 R1, 2 R2

## RES 56.0 1/8W
designator R?, comment 56
RES SMD 56 OHM 5% 1/8W 0805; Value: 56; Tolerance: 5%
pins: 1 R1, 2 R2

## RES 56.2k 1/10W
designator R?, comment 56.2k
RES SMD 56.2K OHM 1% 1/10W 0603; Value: 56.2k; Tolerance: 1%
pins: 1 R1, 2 R2

## RES 56k 1/8W
designator R?, comment 56k
RES SMD 56K OHM 5% 1/8W 0805; Value: 56k; Tolerance: 5%
pins: 1 R1, 2 R2

## RES 62.0 1/8W
designator R?, comment 62
RES SMD 62 OHM 5% 1/8W 0805; Value: 62; Tolerance: 5%
pins: 1 R1, 2 R2

## RES 62k 1/8W
designator R?, comment 62k
RES SMD 62K OHM 5% 1/8W 0805; Value: 62k; Tolerance: 5%
pins: 1 R1, 2 R2

## RES 63.4k 1/8W
designator R?, comment 63.4k
RES SMD 63.4K OHM 5% 1/8W 0603/0805; Value: 63.4k; Tolerance: 5%
pins: 1 R1, 2 R2

## RES 64.9k 1/8W
designator R?, comment 64.9k
RES SMD 64.9K OHM 1% 1/8W 0805; Value: 64.9k; Tolerance: 1%
pins: 1 R1, 2 R2

## RES 68.0 1/8W
designator R?, comment 68
RES SMD 68 OHM 5% 1/8W 0805; Value: 68; Tolerance: 5%
pins: 1 R1, 2 R2

## RES 68k 1/8W
designator R?, comment 68k
RES SMD 68K OHM 5% 1/8W 0805; Value: 68k; Tolerance: 5%
pins: 1 R1, 2 R2

## RES 75.0 1/8W - 1%
designator R?, comment 75
RES SMD 75 OHM 1% 1/8W 0805; Value: 75; Tolerance: 1%
pins: 1 R1, 2 R2

## RES 75.0 1/8W - 5%
designator R?, comment 75
RES SMD 75 OHM 5% 1/8W 0805; Value: 75; Tolerance: 5%
pins: 1 R1, 2 R2

## RES 75k 1/8W
designator R?, comment 75k
RES SMD 75K OHM 5% 1/8W 0805; Value: 75k; Tolerance: 5%
pins: 1 R1, 2 R2

## RES 82.0 1/8W
designator R?, comment 82
RES SMD 82 OHM 5% 1/8W 0805; Value: 82; Tolerance: 5%
pins: 1 R1, 2 R2

## RES 82k 1/8W
designator R?, comment 82k
RES SMD 82K OHM 5% 1/8W 0805; Value: 82k; Tolerance: 5%
pins: 1 R1, 2 R2

## RES 91.0 1/8W
designator R?, comment 91
RES SMD 91 OHM 5% 1/8W 0805; Value: 91; Tolerance: 5%
pins: 1 R1, 2 R2

## RES 91k 1/8W - 1%
designator R?, comment 91k
RES SMD 91K OHM 1% 1/8W 0805; Value: 91k; Tolerance: 1%
pins: 1 R1, 2 R2

## RES 91k 1/8W - 5%
designator R?, comment 91k
RES SMD 91K OHM 5% 1/8W 0805; Value: 91k; Tolerance: 5%
pins: 1 R1, 2 R2

## RES 100.0 1/8W
designator R?, comment 100
RES SMD 100 OHM 5% 1/8W 0603/0805; Value: 100; Tolerance: 5%
pins: 1 R1, 2 R2

## RES 100k 1/8W - 1%
designator R?, comment 100k
RES SMD 100K OHM 1% 1/8W 0805; Value: 100k; Tolerance: 1%
pins: 1 R1, 2 R2

## RES 100k 1/8W - 5%
designator R?, comment 100k
RES SMD 100K OHM 5% 1/8W 0805; Value: 100k; Tolerance: 5%
pins: 1 R1, 2 R2

## RES 110.0 1/8W - 1%
designator R?, comment 110
RES SMD 110 OHM 1% 1/8W 0805; Value: 110; Tolerance: 1%
pins: 1 R1, 2 R2

## RES 110.0 1/8W - 5%
designator R?, comment 110
RES SMD 110 OHM 5% 1/8W 0805; Value: 110; Tolerance: 5%
pins: 1 R1, 2 R2

## RES 110k 1/8W
designator R?, comment 110k
RES SMD 110K OHM 5% 1/8W 0805; Value: 110k; Tolerance: 5%
pins: 1 R1, 2 R2

## RES 120.0 1/8W
designator R?, comment 120
RES SMD 120 OHM 5% 1/8W 0805; Value: 120; Tolerance: 5%
pins: 1 R1, 2 R2

## RES 120k 1/8W
designator R?, comment 120k
RES SMD 120K OHM 5% 1/8W 0805; Value: 120k; Tolerance: 5%
pins: 1 R1, 2 R2

## RES 130.0 1/8W
designator R?, comment 130
RES SMD 130 OHM 5% 1/8W 0805; Value: 130; Tolerance: 5%
pins: 1 R1, 2 R2

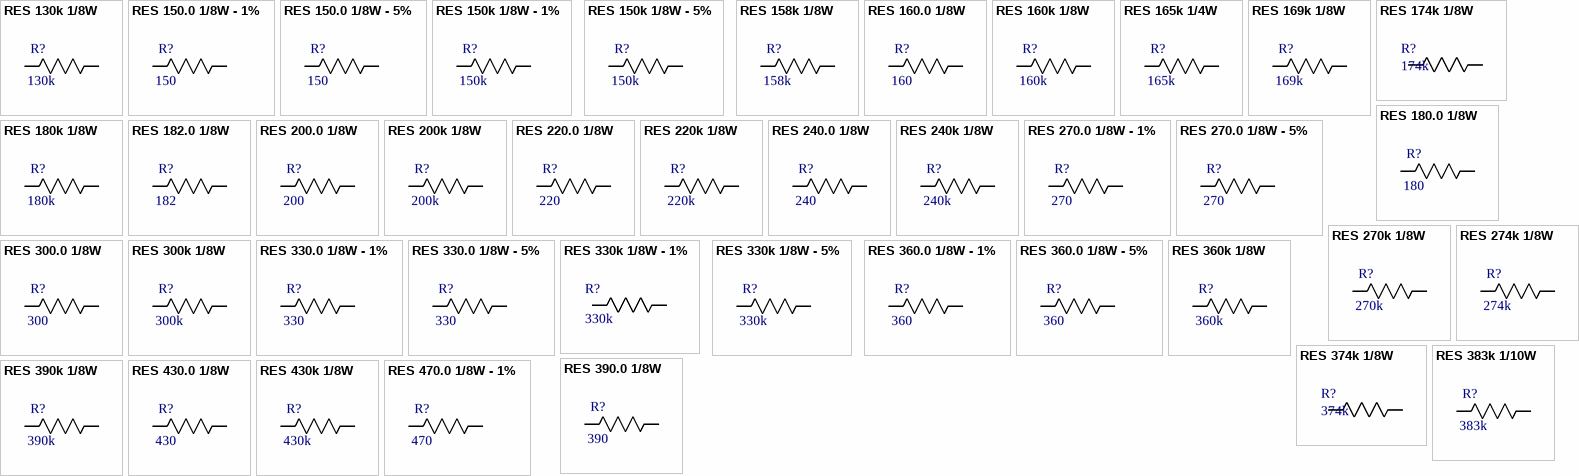
[diagram p10: symbols RES 130k 1/8W to RES 470.0 1/8W - 1%]

## RES 130k 1/8W
designator R?, comment 130k
RES SMD 130K OHM 5% 1/8W 0805; Value: 130k; Tolerance: 5%
pins: 1 R1, 2 R2

## RES 150.0 1/8W - 1%
designator R?, comment 150
RES SMD 150 OHM 1% 1/8W 0603/0805; Value: 150; Tolerance: 1%
pins: 1 R1, 2 R2

## RES 150.0 1/8W - 5%
designator R?, comment 150
RES SMD 150 OHM 5% 1/8W 0603/0805; Value: 150; Tolerance: 5%
pins: 1 R1, 2 R2

## RES 150k 1/8W - 1%
designator R?, comment 150k
RES SMD 150K OHM 1% 1/8W 0805; Value: 150k; Tolerance: 1%
pins: 1 R1, 2 R2

## RES 150k 1/8W - 5%
designator R?, comment 150k
RES SMD 150K OHM 5% 1/8W 0805; Value: 150k; Tolerance: 5%
pins: 1 R1, 2 R2

## RES 158k 1/8W
designator R?, comment 158k
RES SMD 158K OHM 5% 1/8W 0805; Value: 158k; Tolerance: 5%
pins: 1 R1, 2 R2

## RES 160.0 1/8W
designator R?, comment 160
RES SMD 160 OHM 5% 1/8W 0805; Value: 160; Tolerance: 5%
pins: 1 R1, 2 R2

## RES 160k 1/8W
designator R?, comment 160k
RES SMD 160K OHM 5% 1/8W 0805; Value: 160k; Tolerance: 5%
pins: 1 R1, 2 R2

## RES 165k 1/4W
designator R?, comment 165k
RES SMD 165K OHM 1% 1/4W 0805; Value: 165k; Tolerance: 1%
pins: 1 R1, 2 R2

## RES 169k 1/8W
designator R?, comment 169k
RES SMD 169K OHM 1% 1/8W 0805; Value: 169k; Tolerance: 1%
pins: 1 R1, 2 R2

## RES 174k 1/8W
designator R?, comment 174k
RES SMD 174K OHM 1% 1/8W 0805; Manufacturer: Yageo; Manufacturer Part Number: RC0805FR-07174KL; Temperature Coefficient: 100ppm/°C; Voltage Rating: 150V; Supplier 1: Digi-Key; Tolerance: 1%; Length: 2mm; Height: 0.024inch; Width: 0.049inch; Depth: 1.25mm; Supplier Part Number 1: 311-174KCRCT-ND
pins: 1 R1, 2 R2

## RES 180.0 1/8W
designator R?, comment 180
RES SMD 180 OHM 5% 1/8W 0805; Value: 180; Tolerance: 5%
pins: 1 R1, 2 R2

## RES 180k 1/8W
designator R?, comment 180k
RES SMD 180K OHM 5% 1/8W 0805; Value: 180k; Tolerance: 5%
pins: 1 R1, 2 R2

## RES 182.0 1/8W
designator R?, comment 182
RES SMD 182 OHM 1% 1/8W 0805; Value: 182; Tolerance: 1%
pins: 1 R1, 2 R2

## RES 200.0 1/8W
designator R?, comment 200
RES SMD 200 OHM 5% 1/8W 0805; Value: 200; Tolerance: 5%
pins: 1 R1, 2 R2

## RES 200k 1/8W
designator R?, comment 200k
RES SMD 200K OHM 5% 1/8W 0805; Value: 200k; Tolerance: 5%
pins: 1 R1, 2 R2

## RES 220.0 1/8W
designator R?, comment 220
RES SMD 220 OHM 5% 1/8W 0805; Value: 220; Tolerance: 5%
pins: 1 R1, 2 R2

## RES 220k 1/8W
designator R?, comment 220k
RES SMD 220K OHM 5% 1/8W 0805; Value: 220k; Tolerance: 5%
pins: 1 R1, 2 R2

## RES 240.0 1/8W
designator R?, comment 240
RES SMD 240 OHM 5% 1/8W 0805; Value: 240; Tolerance: 5%
pins: 1 R1, 2 R2

## RES 240k 1/8W
designator R?, comment 240k
RES SMD 240K OHM 5% 1/8W 0805; Value: 240k; Tolerance: 5%
pins: 1 R1, 2 R2

## RES 270.0 1/8W - 1%
designator R?, comment 270
RES SMD 270 OHM 1% 1/8W 0603/0805; Value: 270; Tolerance: 1%
pins: 1 R1, 2 R2

## RES 270.0 1/8W - 5%
designator R?, comment 270
RES SMD 270 OHM 5% 1/8W 0603/0805; Value: 270; Tolerance: 5%
pins: 1 R1, 2 R2

## RES 270k 1/8W
designator R?, comment 270k
RES SMD 270K OHM 5% 1/8W 0805; Value: 270k; Tolerance: 5%
pins: 1 R1, 2 R2

## RES 274k 1/8W
designator R?, comment 274k
RES SMD 274K OHM 1% 1/8W 0805; Rating: 0.125W; Value: 274k; Digikey Link: https://www.digikey.ca/products/en?keywords=311-274KCRCT-ND; Tolerance: 1%
pins: 1 R1, 2 R2

## RES 300.0 1/8W
designator R?, comment 300
RES SMD 300 OHM 5% 1/8W 0805; Value: 300; Tolerance: 5%
pins: 1 R1, 2 R2

## RES 300k 1/8W
designator R?, comment 300k
RES SMD 300K OHM 5% 1/8W 0805; Value: 300k; Tolerance: 5%
pins: 1 R1, 2 R2

## RES 330.0 1/8W - 1%
designator R?, comment 330
RES SMD 330 OHM 1% 1/8W 0805; Rating: 0.125W; Value: 330; Tolerance: 1%
pins: 1 R1, 2 R2

## RES 330.0 1/8W - 5%
designator R?, comment 330
RES SMD 330 OHM 5% 1/8W 0805; Value: 330; Tolerance: 5%
pins: 1 R1, 2 R2

## RES 330k 1/8W - 1%
designator R?, comment 330k
RES SMD 274K OHM 1% 1/8W 0805
pins: 1 R1, 2 R2

## RES 330k 1/8W - 5%
designator R?, comment 330k
RES SMD 330K OHM 5% 1/8W 0805; Value: 330k; Tolerance: 5%
pins: 1 R1, 2 R2

## RES 360.0 1/8W - 1%
designator R?, comment 360
RES SMD 360 OHM 1% 1/8W 0805; Value: 360; Tolerance: 1%
pins: 1 R1, 2 R2

## RES 360.0 1/8W - 5%
designator R?, comment 360
RES SMD 360 OHM 5% 1/8W 0805; Value: 360; Tolerance: 5%
pins: 1 R1, 2 R2

## RES 360k 1/8W
designator R?, comment 360k
RES SMD 360K OHM 5% 1/8W 0805; Value: 360k; Tolerance: 5%
pins: 1 R1, 2 R2

## RES 374k 1/8W
designator R?, comment 374k
RES SMD 374K OHM 0.1% 1/8W 0805; Manufacturer: Panasonic; Manufacturer Part Number: ERA-6AEB3743V; Temperature Coefficient: 25ppm/°C; Voltage Rating: 100V; Supplier 1: Digi-Key; Mount: Surface Mount; Number of Pins: 2; Tolerance: 0.1%; Length: 2mm; Height: 0.5mm; Width: 1.25mm; Depth: 1.25mm; Supplier Part Number 1: P374KDACT-ND
pins: 1 R1, 2 R2

## RES 383k 1/10W
designator R?, comment 383k
RES SMD 383k OHM 1% 1/10W 0603; Value: 383k; Tolerance: 1%
pins: 1 R1, 2 R2

## RES 390.0 1/8W
designator R?, comment 390
RES SMD 390 OHM 5% 1/8W 0805; Value: 390; Tolerance: 5%
pins: 1 R1, 2 R2

## RES 390k 1/8W
designator R?, comment 390k
RES SMD 390K OHM 5% 1/8W 0805; Value: 390k; Tolerance: 5%
pins: 1 R1, 2 R2

## RES 430.0 1/8W
designator R?, comment 430
RES SMD 430 OHM 5% 1/8W 0805; Value: 430; Tolerance: 5%
pins: 1 R1, 2 R2

## RES 430k 1/8W
designator R?, comment 430k
RES SMD 430K OHM 5% 1/8W 0805; Value: 430k; Tolerance: 5%
pins: 1 R1, 2 R2

## RES 470.0 1/8W - 1%
designator R?, comment 470
RES SMD 470 OHM 1% 1/8W 0805; Value: 470; Tolerance: 1%
pins: 1 R1, 2 R2

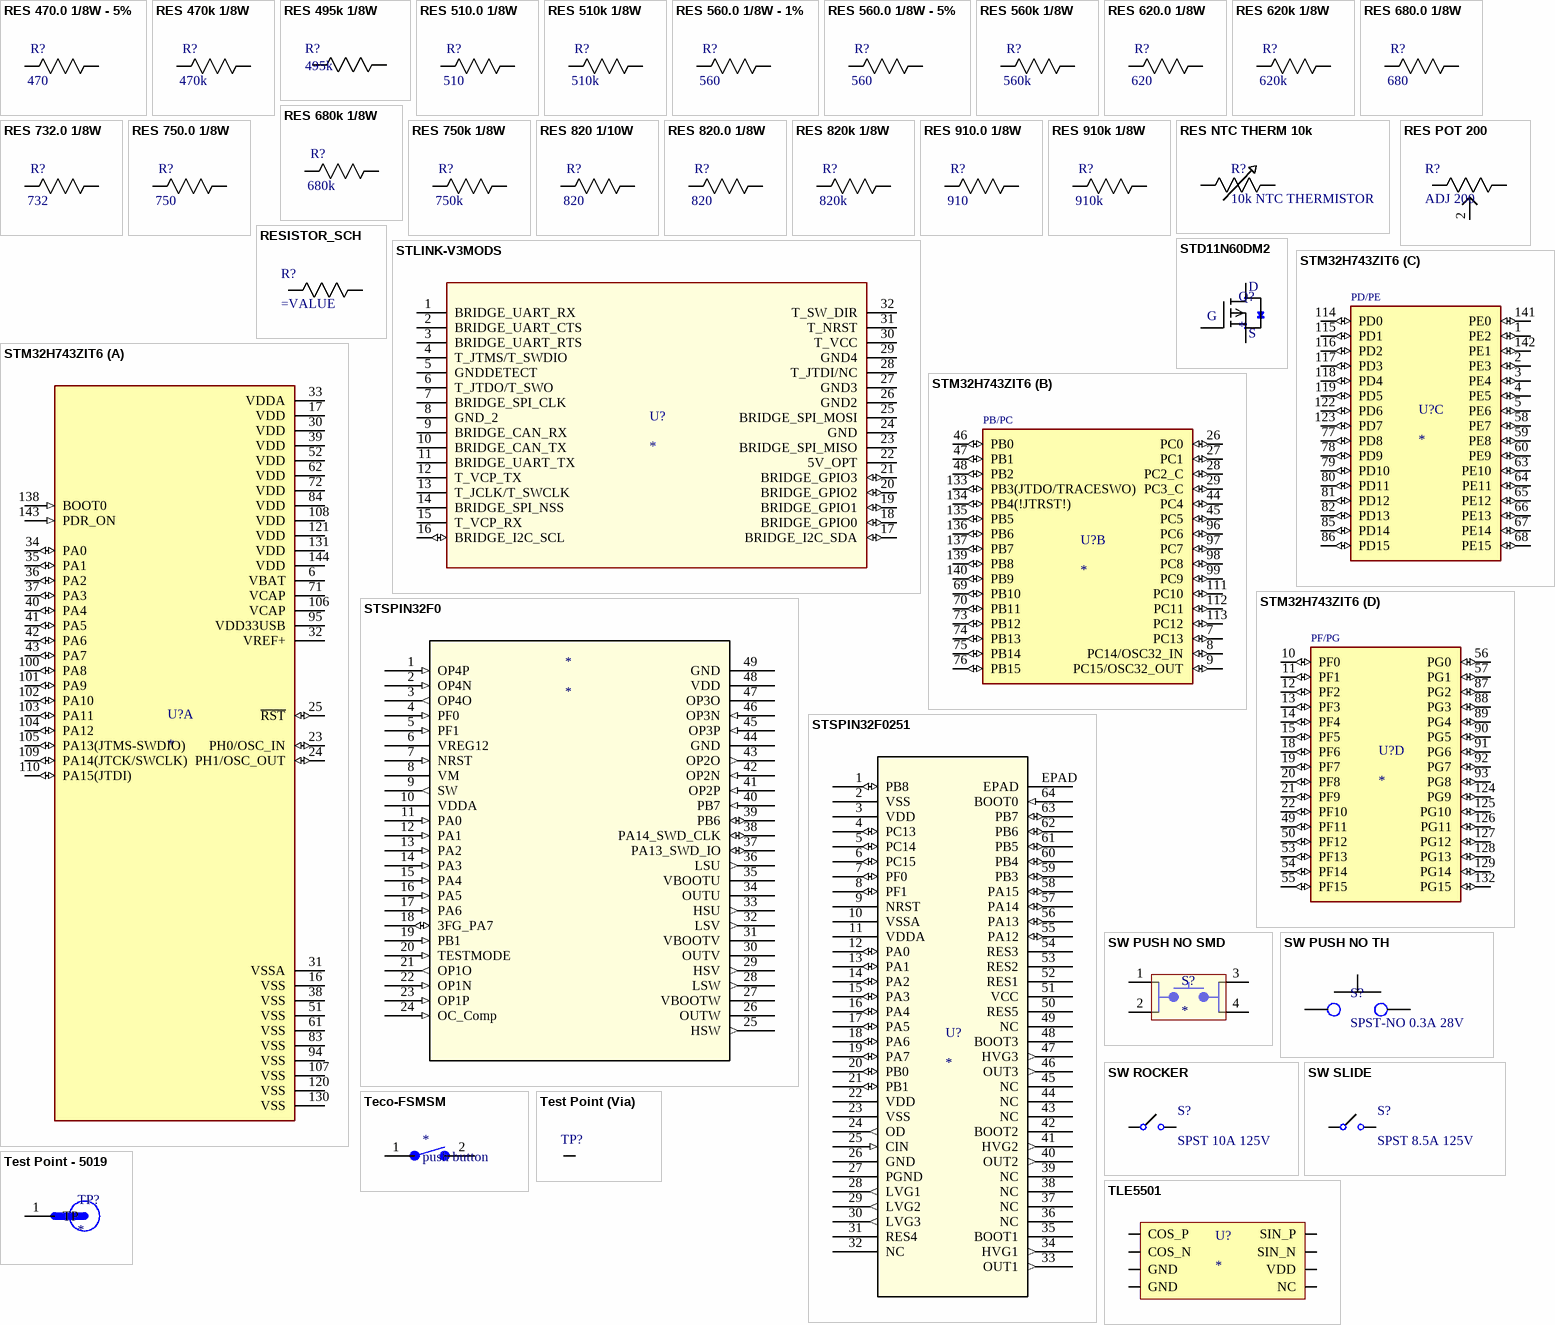
[diagram p11: symbols RES 470.0 1/8W - 5% to TLE5501]

## RES 470.0 1/8W - 5%
designator R?, comment 470
RES SMD 470 OHM 5% 1/8W 0805; Value: 470; Tolerance: 5%
pins: 1 R1, 2 R2

## RES 470k 1/8W
designator R?, comment 470k
RES SMD 470K OHM 5% 1/8W 0805; Value: 470k; Tolerance: 5%
pins: 1 R1, 2 R2

## RES 495k 1/8W
designator R?, comment 495k
RES SMD 499K OHM 1% 1/8W 0805; Manufacturer: Yageo; Manufacturer Part Number: RC0805FR-07499KL; Temperature Coefficient: 100ppm/°C; Voltage Rating: 150V; Supplier 1: Digi-Key; Tolerance: 1%; Length: 2mm; Depth: 1.25mm; Supplier Part Number 1: 311-499KCRCT-ND
pins: 1 R1, 2 R2

## RES 510.0 1/8W
designator R?, comment 510
RES SMD 510 OHM 5% 1/8W 0805; Value: 510; Tolerance: 5%
pins: 1 R1, 2 R2

## RES 510k 1/8W
designator R?, comment 510k
RES SMD 510K OHM 5% 1/8W 0805; Value: 510k; Tolerance: 5%
pins: 1 R1, 2 R2

## RES 560.0 1/8W - 1%
designator R?, comment 560
RES SMD 560 OHM 1% 1/8W 0805; Value: 560; Tolerance: 1%
pins: 1 R1, 2 R2

## RES 560.0 1/8W - 5%
designator R?, comment 560
RES SMD 560 OHM 5% 1/8W 0805; Value: 560; Tolerance: 5%
pins: 1 R1, 2 R2

## RES 560k 1/8W
designator R?, comment 560k
RES SMD 560K OHM 5% 1/8W 0805; Value: 560k; Tolerance: 5%
pins: 1 R1, 2 R2

## RES 620.0 1/8W
designator R?, comment 620
RES SMD 620 OHM 5% 1/8W 0805; Value: 620; Tolerance: 5%
pins: 1 R1, 2 R2

## RES 620k 1/8W
designator R?, comment 620k
RES SMD 620K OHM 5% 1/8W 0805; Value: 620k; Tolerance: 5%
pins: 1 R1, 2 R2

## RES 680.0 1/8W
designator R?, comment 680
RES SMD 680 OHM 5% 1/8W 0805; Value: 680; Tolerance: 5%
pins: 1 R1, 2 R2

## RES 680k 1/8W
designator R?, comment 680k
RES SMD 680K OHM 5% 1/8W 0805; Value: 680k; Tolerance: 5%
pins: 1 R1, 2 R2

## RES 732.0 1/8W
designator R?, comment 732
RES SMD 732 OHM 1% 1/8W 0805; Value: 732; Tolerance: 1%
pins: 1 R1, 2 R2

## RES 750.0 1/8W
designator R?, comment 750
RES SMD 750 OHM 5% 1/8W 0805; Value: 750; Tolerance: 5%
pins: 1 R1, 2 R2

## RES 750k 1/8W
designator R?, comment 750k
RES SMD 750K OHM 5% 1/8W 0805; Value: 750k; Tolerance: 5%
pins: 1 R1, 2 R2

## RES 820 1/10W
designator R?, comment 820
RES SMD 820 OHM 1% 1/10W 0603; Value: 820; Tolerance: 1%
pins: 1 R1, 2 R2

## RES 820.0 1/8W
designator R?, comment 820
RES SMD 820 OHM 5% 1/8W 0805; Value: 820; Tolerance: 5%
pins: 1 R1, 2 R2

## RES 820k 1/8W
designator R?, comment 820k
RES SMD 820k OHM 5% 1/8W 0805; Value: 820k; Tolerance: 5%
pins: 1 R1, 2 R2

## RES 910.0 1/8W
designator R?, comment 910
RES SMD 910 OHM 5% 1/8W 0805; Value: 910; Tolerance: 5%
pins: 1 R1, 2 R2

## RES 910k 1/8W
designator R?, comment 910k
RES SMD 910k OHM 5% 1/8W 0805; Value: 910k; Tolerance: 5%
pins: 1 R1, 2 R2

## RES NTC THERM 10k
designator R?, comment 10k NTC THERMISTOR
RES SMD THERMISTOR NTC 10KOHM 3380K 0603; Manufacturer: Murata; Tolerance: 1%; Supplier 1: Digi-Key; Mount: Surface Mount; Number of Pins: 2; Length: 1.6mm; Height: 0.8mm; Depth: 0.8mm; Supplier Part Number 1: 490-4800-1-ND
pins: 1 R1, 2 R2

## RES POT 200
designator R?, comment ADJ 200
SMD Potentiometer 200Ohm Range
pins: 1, 2, 3

## RESISTOR_SCH
designator R?
pins: 1 R1, 2 R2

## STD11N60DM2
designator Q?
pins: D, G, S

## STLINK-V3MODS
designator U?
STM32 - Debugger, Programmer (In-Circuit/In-System)
pins: 1 BRIDGE_UART_RX, 2 BRIDGE_UART_CTS, 3 BRIDGE_UART_RTS, 4 T_JTMS/T_SWDIO, 5 GNDDETECT, 6 T_JTDO/T_SWO, 7 BRIDGE_SPI_CLK, 8 GND_2, 9 BRIDGE_CAN_RX, 10 BRIDGE_CAN_TX, 11 BRIDGE_UART_TX, 12 T_VCP_TX, 13 T_JCLK/T_SWCLK, 14 BRIDGE_SPI_NSS, 15 T_VCP_RX, 16 BRIDGE_I2C_SCL (io), 17 BRIDGE_I2C_SDA (io), 18 BRIDGE_GPIO0 (io), 19 BRIDGE_GPIO1 (io), 20 BRIDGE_GPIO2 (io), 21 BRIDGE_GPIO3 (io), 22 5V_OPT, 23 BRIDGE_SPI_MISO, 24 GND, 25 BRIDGE_SPI_MOSI, 26 GND2, 27 GND3, 28 T_JTDI/NC, 29 GND4, 30 T_VCC, 31 T_NRST, 32 T_SW_DIR

## STM32H743ZIT6
designator U?
ARM® Cortex®-M7 STM32H7 Microcontroller IC 32-Bit 480MHz 2MB (2M x 8) FLASH 144-LQFP (20x20)
part A pins: 6 VBAT (power), 16 VSS (power), 17 VDD (power), 23 PH0/OSC_IN (io), 24 PH1/OSC_OUT (io), 25 ~{RST} (io), 30 VDD (power), 31 VSSA (power), 32 VREF+ (power), 33 VDDA (power), 34 PA0 (io), 35 PA1 (io), 36 PA2 (io), 37 PA3 (io), 38 VSS (power), 39 VDD (power), 40 PA4 (io), 41 PA5 (io), 42 PA6 (io), 43 PA7 (io), 51 VSS (power), 52 VDD (power), 61 VSS (power), 62 VDD (power), 71 VCAP (power), 72 VDD (power), 83 VSS (power), 84 VDD (power), 94 VSS (power), 95 VDD33USB (power), 100 PA8 (io), 101 PA9 (io), 102 PA10 (io), 103 PA11 (io), 104 PA12 (io), 105 PA13(JTMS-SWDIO) (io), 106 VCAP (power), 107 VSS (power), 108 VDD (power), 109 PA14(JTCK/SWCLK) (io), 110 PA15(JTDI) (io), 120 VSS (power), 121 VDD (power), 130 VSS (power), 131 VDD (power), 138 BOOT0 (in), 143 PDR_ON (in), 144 VDD (power)
part B pins: 7 PC13 (io), 8 PC14/OSC32_IN (io), 9 PC15/OSC32_OUT (io), 26 PC0 (io), 27 PC1 (io), 28 PC2_C (io), 29 PC3_C (io), 44 PC4 (io), 45 PC5 (io), 46 PB0 (io), 47 PB1 (io), 48 PB2 (io), 69 PB10 (io), 70 PB11 (io), 73 PB12 (io), 74 PB13 (io), 75 PB14 (io), 76 PB15 (io), 96 PC6 (io), 97 PC7 (io), 98 PC8 (io), 99 PC9 (io), 111 PC10 (io), 112 PC11 (io), 113 PC12 (io), 133 PB3(JTDO/TRACESWO) (io), 134 PB4(!JTRST!) (io), 135 PB5 (io), 136 PB6 (io), 137 PB7 (io), 139 PB8 (io), 140 PB9 (io)
part C pins: 1 PE2 (io), 2 PE3 (io), 3 PE4 (io), 4 PE5 (io), 5 PE6 (io), 58 PE7 (io), 59 PE8 (io), 60 PE9 (io), 63 PE10 (io), 64 PE11 (io), 65 PE12 (io), 66 PE13 (io), 67 PE14 (io), 68 PE15 (io), 77 PD8 (io), 78 PD9 (io), 79 PD10 (io), 80 PD11 (io), 81 PD12 (io), 82 PD13 (io), 85 PD14 (io), 86 PD15 (io), 114 PD0 (io), 115 PD1 (io), 116 PD2 (io), 117 PD3 (io), 118 PD4 (io), 119 PD5 (io), 122 PD6 (io), 123 PD7 (io), 141 PE0 (io), 142 PE1 (io)
part D pins: 10 PF0 (io), 11 PF1 (io), 12 PF2 (io), 13 PF3 (io), 14 PF4 (io), 15 PF5 (io), 18 PF6 (io), 19 PF7 (io), 20 PF8 (io), 21 PF9 (io), 22 PF10 (io), 49 PF11 (io), 50 PF12 (io), 53 PF13 (io), 54 PF14 (io), 55 PF15 (io), 56 PG0 (io), 57 PG1 (io), 87 PG2 (io), 88 PG3 (io), 89 PG4 (io), 90 PG5 (io), 91 PG6 (io), 92 PG7 (io), 93 PG8 (io), 124 PG9 (io), 125 PG10 (io), 126 PG11 (io), 127 PG12 (io), 128 PG13 (io), 129 PG14 (io), 132 PG15 (io)
part B text: PB/PC
part C text: PD/PE
part D text: PF/PG

## STSPIN32F0
designator *
IC BLDC CTLR STM32 48VFQFPN; Rating: 8V ~ 45V; Digikey Link: https://www.digikey.ca/en/products/detail/stmicroelectronics/STSPIN32F0/6236758
pins: 1 OP4P (in), 2 OP4N (in), 3 OP4O (out), 4 PF0 (in), 5 PF1 (in), 6 VREG12 (power), 7 NRST (in), 8 VM (power), 9 SW (out), 10 VDDA (power), 11 PA0 (in), 12 PA1 (in), 13 PA2 (in), 14 PA3 (in), 15 PA4 (in), 16 PA5 (in), 17 PA6 (in), 18 3FG_PA7 (io), 19 PB1 (in), 20 TESTMODE (in), 21 OP1O (out), 22 OP1N (in), 23 OP1P (in), 24 OC_Comp (in), 25 HSW (out), 26 OUTW (power), 27 VBOOTW (power), 28 LSW (out), 29 HSV (out), 30 OUTV (power), 31 VBOOTV (power), 32 LSV (out), 33 HSU (out), 34 OUTU (power), 35 VBOOTU (power), 36 LSU (out), 37 PA13_SWD_IO (io), 38 PA14_SWD_CLK (io), 39 PB6 (io), 40 PB7 (in), 41 OP2P (in), 42 OP2N (in), 43 OP2O (out), 44 GND, 45 OP3P (in), 46 OP3N (in), 47 OP3O, 48 VDD (power), 49 GND

## STSPIN32F0251
designator U?
250 V BLDC THREE-PHASE CONTROLLER; Manufacturer: STMicroelectronics; V rating: 9V ~ 20V; Digikey Link: https://www.digikey.ca/en/products/detail/stmicroelectronics/STSPIN32F0251TR/11591126
pins: 1 PB8 (io), 2 VSS, 3 VDD (power), 4 PC13 (io), 5 PC14 (io), 6 PC15 (io), 7 PF0 (io), 8 PF1 (io), 9 NRST, 10 VSSA, 11 VDDA (power), 12 PA0 (io), 13 PA1 (io), 14 PA2 (io), 15 PA3 (io), 16 PA4 (io), 17 PA5 (io), 18 PA6 (io), 19 PA7 (io), 20 PB0 (io), 21 PB1 (io), 22 VDD (power), 23 VSS, 24 OD (out), 25 CIN (in), 26 GND, 27 PGND, 28 LVG1 (out), 29 LVG2 (out), 30 LVG3 (out), 31 RES4, 32 NC, 33 OUT1 (out), 34 HVG1 (out), 35 BOOT1 (power), 36 NC, 37 NC, 38 NC, 39 NC, 40 OUT2 (out), 41 HVG2 (out), 42 BOOT2 (power), 43 NC, 44 NC, 45 NC, 46 OUT3 (out), 47 HVG3 (out), 48 BOOT3 (power), 49 NC, 50 RES5, 51 VCC (power), 52 RES1, 53 RES2, 54 RES3, 55 PA12 (io), 56 PA13 (io), 57 PA14 (io), 58 PA15 (io), 59 PB3 (io), 60 PB4 (io), 61 PB5 (io), 62 PB6 (io), 63 PB7 (io), 64 BOOT0 (in), EPAD

## SW PUSH NO SMD
designator S?
Tactile Switch SPST-NO Top Actuated Surface Mount 12V 50mA
pins: 1, 2, 3, 4

## SW PUSH NO TH
designator S?, comment SPST-NO 0.3A 28V
Pushbutton Switch SPST-NO Standard Through Hole; Rating: 28V 0.3A; Digikey Link: https://www.digikey.ca/product-detail/en/e-switch/PB300STQ/EG5398-ND/6126493
pins: 1, 2

## SW ROCKER
designator S?, comment SPST 10A 125V
Rocker Switch SPST 10A (AC) 125V Panel Mount, Snap-In; Digikey Link: https://www.digikey.ca/product-detail/en/zf-electronics/SRB22A2FBBNN/CH755-ND/446021; Rating: 10A 125V
pins: 0, 1

## SW SLIDE
designator S?, comment SPST 8.5A 125V
SWITCH SLIDE SPST 8.5A 125V; Digikey Link: https://www.digikey.com/en/products/detail/cw-industries/GF-123-0054/4089770; Rating: 8.5A 125V
pins: 0, 1

## Teco-FSMSM
designator *, comment push button
pins: 1, 2

## Test Point (Via)
designator TP?  (value not drawn)
pins: 1

## Test Point - 5019
designator TP?
PC Test Point, Miniature Phosphor Bronze, Silver Plating Surface Mount Mounting Type; Value: *
pins: 1 TP

## TLE5501
designator U?
TMR 360deg Magnetic Encoder; Manufacturer: Infineon Technologies; Manufacturer Part Number: TLE5501E0001XUMA1; Footprint: 8-SOIC; Supplier 1: Digi-Key; Supplier Part Number 1: TLE5501E0001XUMA1CT-ND
pins: 1 COS_P, 2 COS_N, 3 GND, 4 GND, 5 NC, 6 VDD, 7 SIN_N, 8 SIN_P

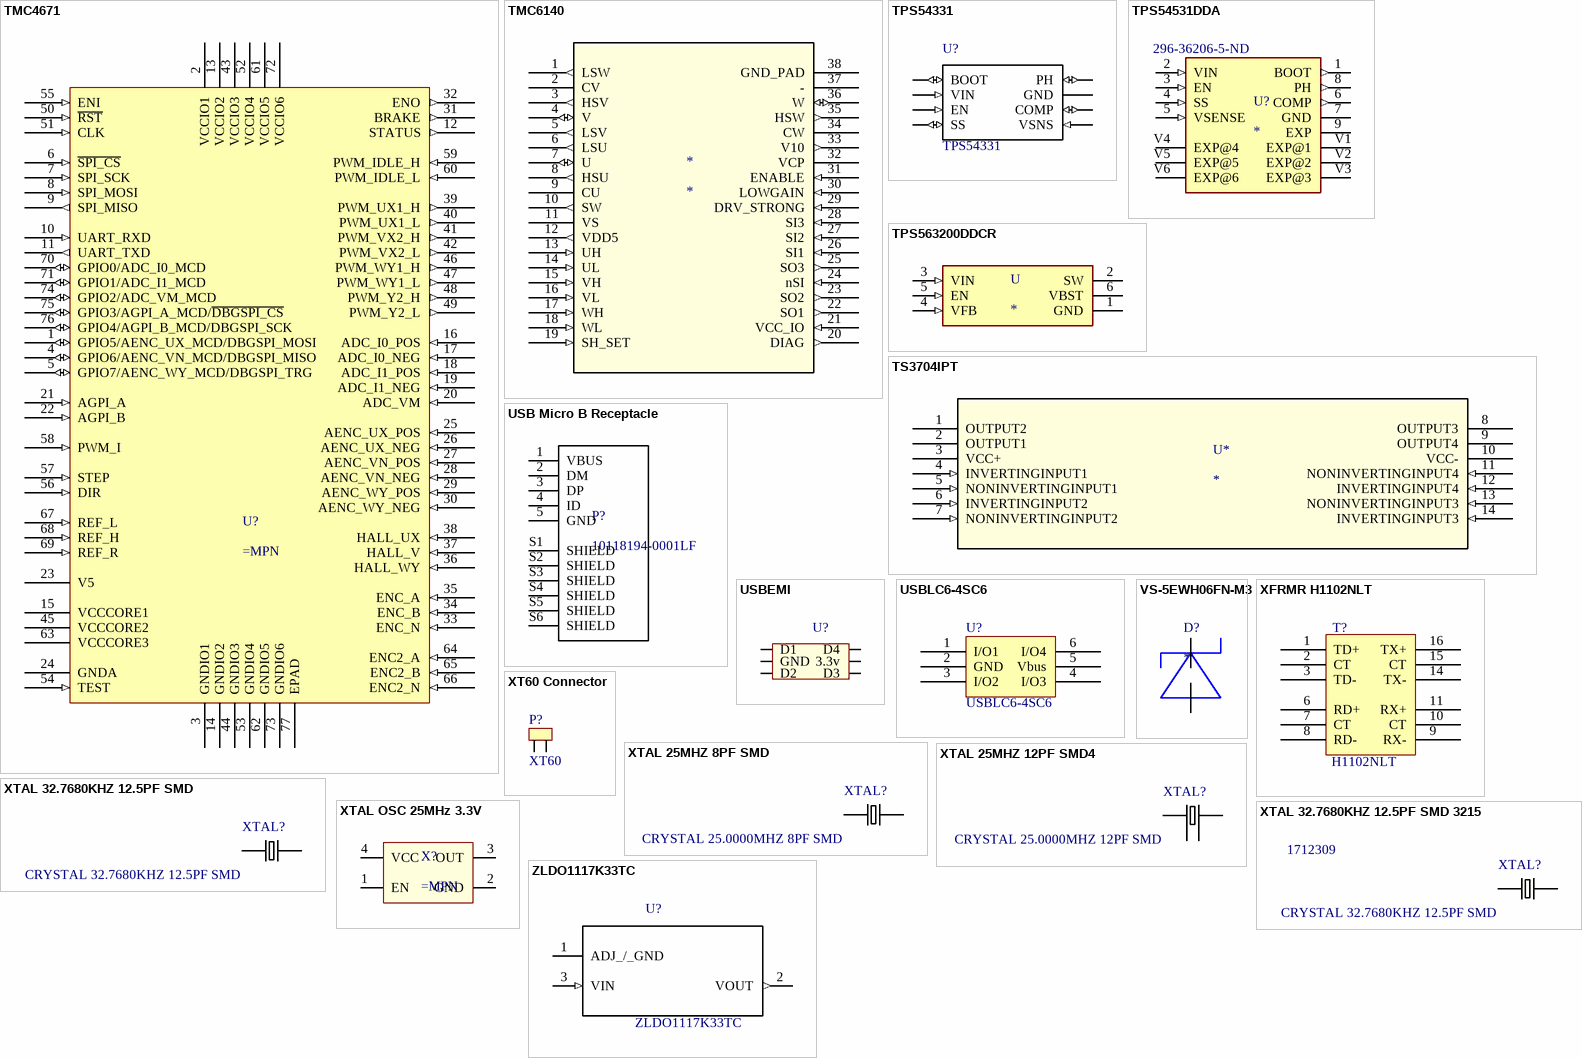
[diagram p12: symbols TMC4671 to ZLDO1117K33TC]

## TMC4671
designator U?
Multiphase Motor Driver Power MOSFET SPI, Step/Direction 76-QFN
pins: 1 GPIO5/AENC_UX_MCD/DBGSPI_MOSI (io), 2 VCCIO1 (power), 3 GNDIO1 (power), 4 GPIO6/AENC_VN_MCD/DBGSPI_MISO (io), 5 GPIO7/AENC_WY_MCD/DBGSPI_TRG (io), 6 ~{SPI_CS} (in), 7 SPI_SCK (in), 8 SPI_MOSI (in), 9 SPI_MISO (out), 10 UART_RXD (in), 11 UART_TXD (out), 12 STATUS (out), 13 VCCIO2 (power), 14 GNDIO2 (power), 15 VCCCORE1 (power), 16 ADC_I0_POS (in), 17 ADC_I0_NEG (in), 18 ADC_I1_POS (in), 19 ADC_I1_NEG (in), 20 ADC_VM (in), 21 AGPI_A (in), 22 AGPI_B (in), 23 V5 (power), 24 GNDA (power), 25 AENC_UX_POS (in), 26 AENC_UX_NEG (in), 27 AENC_VN_POS (in), 28 AENC_VN_NEG (in), 29 AENC_WY_POS (in), 30 AENC_WY_NEG (in), 31 BRAKE (out), 32 ENO (out), 33 ENC_N (in), 34 ENC_B (in), 35 ENC_A (in), 36 HALL_WY (in), 37 HALL_V (in), 38 HALL_UX (in), 39 PWM_UX1_H (out), 40 PWM_UX1_L (out), 41 PWM_VX2_H (out), 42 PWM_VX2_L (out), 43 VCCIO3 (power), 44 GNDIO3 (power), 45 VCCCORE2 (power), 46 PWM_WY1_H (out), 47 PWM_WY1_L (out), 48 PWM_Y2_H (out), 49 PWM_Y2_L (out), 50 ~{RST} (in), 51 CLK (in), 52 VCCIO4 (power), 53 GNDIO4 (power), 54 TEST (in), 55 ENI (in), 56 DIR (in), 57 STEP (in), 58 PWM_I (in), 59 PWM_IDLE_H (in), 60 PWM_IDLE_L (in), 61 VCCIO5 (power), 62 GNDIO5 (power), 63 VCCCORE3 (power), 64 ENC2_A (in), 65 ENC2_B (in), 66 ENC2_N (in), 67 REF_L (in), 68 REF_H (in), 69 REF_R (in), 70 GPIO0/ADC_I0_MCD (io), 71 GPIO1/ADC_I1_MCD (io), 72 VCCIO6 (power), 73 GNDIO6 (power), 74 GPIO2/ADC_VM_MCD (io), 75 GPIO3/AGPI_A_MCD/~{DBGSPI_CS} (io), 76 GPIO4/AGPI_B_MCD/DBGSPI_SCK (io), 77 EPAD

## TMC6140
designator *
GATE DRIVER IC 5-30V QFN36; Manufacturer: Trinamic Motion Control; Manufacturer Part Number: TMC6140-LA-T; V rating: 5-30V
pins: 1 LSW (out), 2 CV, 3 HSV (out), 4 V (io), 5 LSV (out), 6 LSU (out), 7 U (io), 8 HSU (out), 9 CU, 10 SW (out), 11 VS (power), 12 VDD5 (out), 13 UH (in), 14 UL (in), 15 VH (in), 16 VL (in), 17 WH (in), 18 WL (in), 19 SH_SET (in), 20 DIAG (out), 21 VCC_IO (in), 22 SO1 (out), 23 SO2 (out), 24 nSI (in), 25 SO3 (out), 26 SI1 (in), 27 SI2 (in), 28 SI3 (in), 29 DRV_STRONG (in), 30 LOWGAIN (in), 31 ENABLE (in), 32 VCP (power), 33 V10 (out), 34 CW, 35 HSW (out), 36 W (io), 37 -, 38 GND_PAD

## TPS54331
designator U?
Buck Switching Regulator IC Positive Adjustable 0.8V 1 Output 3A 8-SOIC _0.154, 3.90mm Width_; Digikey Link: https://www.digikey.ca/product-detail/en/texas-instruments/TPS54331DDAR/296-39419-1-ND/5143369; Supplier 1: Digi-Key; Supplier Part Number 1: 296-39419-1-ND
pins: 1 BOOT (io), 2 VIN (in), 3 EN (in), 4 SS (io), 5 VSNS (in), 6 COMP (io), 7 GND (power), 8 PH (io), 9 PowerPAD (power) hidden

## TPS54531DDA
designator U?  Supplier Part Number 1: 296-36206-5-ND
Buck Switching Regulator IC Positive Adjustable 0.8V 1 Output 5A 8-PowerSOIC _0.154, 3.90mm Width_; Value: *; Supplier 1: Digi-Key
pins: 1 BOOT (out), 2 VIN (in), 3 EN (in), 4 SS (in), 5 VSENSE (in), 6 COMP (out), 7 GND (power), 8 PH (out), 9 EXP (power), V1 EXP@1 (power), V2 EXP@2 (power), V3 EXP@3 (power), V4 EXP@4 (power), V5 EXP@5 (power), V6 EXP@6 (power)

## TPS563200DDCR
designator U
Buck Switching Regulator IC Positive Adjustable 0.76V 1 Output 3A SOT-23-6 Thin, TSOT-23-6; Value: *; Supplier 1: Digi-Key; Supplier Part Number 1: 296-43663-1-ND
pins: 1 GND (power), 2 SW, 3 VIN (in), 4 VFB (in), 5 EN (in), 6 VBST

## TS3704IPT
designator U*
IC COMP QUAD CMOS MCRPWR 14TSSOP; Manufacturer: STMicroelectronics
pins: 1 OUTPUT2, 2 OUTPUT1, 3 VCC+ (power), 4 INVERTINGINPUT1 (in), 5 NONINVERTINGINPUT1 (in), 6 INVERTINGINPUT2 (in), 7 NONINVERTINGINPUT2 (in), 8 OUTPUT3, 9 OUTPUT4, 10 VCC- (power), 11 NONINVERTINGINPUT4 (in), 12 INVERTINGINPUT4 (in), 13 NONINVERTINGINPUT3 (in), 14 INVERTINGINPUT3 (in)

## USB Micro B Receptacle
designator P?, comment 10118194-0001LF
USB - micro B USB 2.0 Receptacle Connector 5 Position Surface Mount, Right Angle; Through Hole; Rating: 100VAC 1.8A; Digikey Link: https://www.digikey.ca/product-detail/en/amphenol-icc-fci/10118194-0001LF/609-4618-1-ND/2785382
pins: 1 VBUS, 2 DM, 3 DP, 4 ID, 5 GND, S1 SHIELD, S2 SHIELD, S3 SHIELD, S4 SHIELD, S5 SHIELD, S6 SHIELD

## USBEMI
designator U?, comment FILTER RC(PI) 33 OHM/47PF SMD  (value not drawn)
RC (Pi) EMI Filter 2nd Order Low Pass 2 Channel R = 33Ohms, C = 47pF  6-TSSOP, SC-88, SOT-363; Digikey Link: https://www.digikey.ca/product-detail/en/stmicroelectronics/USBUF01W6/497-3087-1-ND/634851
pins: 3.3v, D1, D2, D3, D4, GND

## USBLC6-4SC6
designator U?
pins: 1 I/O1, 2 GND, 3 I/O2, 4 I/O3, 5 Vbus, 6 I/O4

## VS-5EWH06FN-M3
designator D?
Diode Switching 600V 5A DPAK; Digikey Link: https://www.digikey.ca/en/products/detail/vishay-semiconductor-diodes-division/VS-5EWH06FN-M3/4934509
pins: IN, OUT